# Altium schematic symbol library CH sch.SchLib: 197 symbols (part 2 of 4)
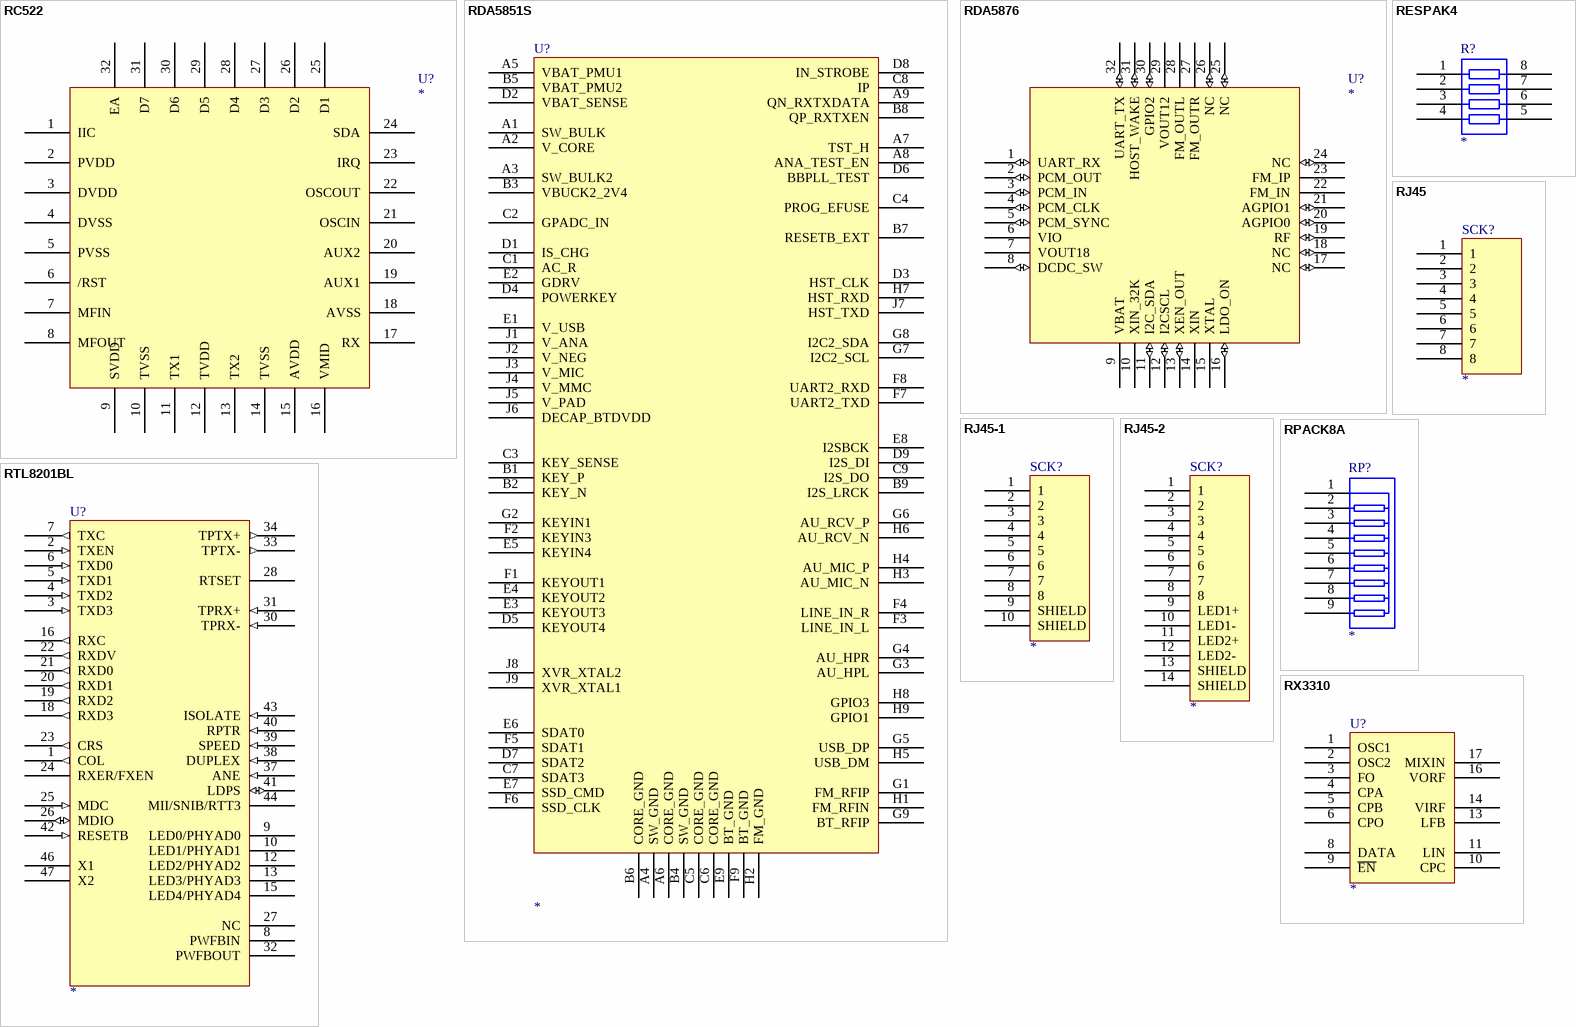
[diagram p28: symbols RC522 to RX3310]

## RDA5851S
designator U?
footprint BGA81x9
pins: A1 SW_BULK, A2 V_CORE, A3 SW_BULK2, A4 SW_GND (power), A5 VBAT_PMU1, A6 CORE_GND (power), A7 TST_H, A8 ANA_TEST_EN, A9 QN_RXTXDATA, B1 KEY_P, B2 KEY_N, B3 VBUCK2_2V4, B4 SW_GND (power), B5 VBAT_PMU2, B6 CORE_GND (power), B7 RESETB_EXT, B8 QP_RXTXEN, B9 I2S_LRCK, C1 AC_R, C2 GPADC_IN, C3 KEY_SENSE, C4 PROG_EFUSE, C5 CORE_GND (power), C6 CORE_GND (power), C7 SDAT3, C8 IP, C9 I2S_DO, D1 IS_CHG (hiz), D2 VBAT_SENSE, D3 HST_CLK, D4 POWERKEY, D5 KEYOUT4, D6 BBPLL_TEST, D7 SDAT2, D8 IN_STROBE, D9 I2S_DI, E1 V_USB, E2 GDRV, E3 KEYOUT3, E4 KEYOUT2, E5 KEYIN4, E6 SDAT0, E7 SSD_CMD, E8 I2SBCK, E9 BT_GND (power), F1 KEYOUT1, F2 KEYIN3, F3 LINE_IN_L, F4 LINE_IN_R, F5 SDAT1, F6 SSD_CLK, F7 UART2_TXD, F8 UART2_RXD, F9 BT_GND (power), G1 FM_RFIP, G2 KEYIN1, G3 AU_HPL, G4 AU_HPR, G5 USB_DP, G6 AU_RCV_P, G7 I2C2_SCL, G8 I2C2_SDA, G9 BT_RFIP, H1 FM_RFIN, H2 FM_GND (power), H3 AU_MIC_N, H4 AU_MIC_P, H5 USB_DM, H6 AU_RCV_N, H7 HST_RXD, H8 GPIO3, H9 GPIO1, J1 V_ANA, J2 V_NEG, J3 V_MIC, J4 V_MMC, J5 V_PAD, J6 DECAP_BTDVDD, J7 HST_TXD, J8 XVR_XTAL2, J9 XVR_XTAL1
2 alternate drawings of the same symbol

## RDA5876
designator U?
HCI interface Bluetooth2.1 transmiter & FM radio receiver
footprint QFN-32S
pins: 1 UART_RX (io), 2 PCM_OUT (io), 3 PCM_IN (io), 4 PCM_CLK (io), 5 PCM_SYNC (io), 6 VIO (power), 7 VOUT18 (power), 8 DCDC_SW (io), 9 VBAT (power), 10 XIN_32K, 11 I2C_SDA (io), 12 I2CSCL (io), 13 XEN_OUT (io), 14 XIN, 15 XTAL, 16 LDO_ON (io), 17 NC (io), 18 NC (io), 19 RF (io), 20 AGPIO0 (io), 21 AGPIO1 (io), 22 FM_IN, 23 FM_IP, 24 NC (io), 25 NC (io), 26 NC (io), 27 FM_OUTR, 28 FM_OUTL, 29 VOUT12 (power), 30 GPIO2 (io), 31 HOST_WAKE (io), 32 UART_TX (io), 33 GND (power) hidden to GND
2 alternate drawings of the same symbol

## RESPAK4
designator R?
footprint CNJ4A
pins: 1, 2, 3, 4, 5, 6, 7, 8
2 alternate drawings of the same symbol

## RJ45
designator SCK?
footprint RJ45
pins: 1, 2, 3, 4, 5, 6, 7, 8
2 alternate drawings of the same symbol

## RJ45-1
designator SCK?
footprint RJ45
pins: 1, 2, 3, 4, 5, 6, 7, 8, 9 SHIELD (power), 10 SHIELD
2 alternate drawings of the same symbol

## RJ45-2
designator SCK?
footprint RJ45-2
pins: 1, 2, 3, 4, 5, 6, 7, 8, 9 LED1+, 10 LED1-, 11 LED2+, 12 LED2-, 13 SHIELD (power), 14 SHIELD
2 alternate drawings of the same symbol

## RPACK8A
designator RP?
footprint SIP-9
pins: 1, 2, 3, 4, 5, 6, 7, 8, 9
2 alternate drawings of the same symbol

## RTL8201BL
designator U?
footprint LQFP48
pins: 1 COL (out), 2 TXEN (in), 3 TXD3 (in), 4 TXD2 (in), 5 TXD1 (in), 6 TXD0 (in), 7 TXC (out), 8 PWFBIN, 9 LED0/PHYAD0, 10 LED1/PHYAD1, 11 DGND (power) hidden to DGND, 12 LED2/PHYAD2, 13 LED3/PHYAD3, 14 DVDD33 (power) hidden to DVDD33, 15 LED4/PHYAD4, 16 RXC (out), 17 DGND (power) hidden to DGND, 18 RXD3 (out), 19 RXD2 (out), 20 RXD1 (out), 21 RXD0 (out), 22 RXDV (out), 23 CRS (out), 24 RXER/FXEN, 25 MDC (in), 26 MDIO (io), 27 NC, 28 RTSET, 29 AGND (power) hidden to AGND, 30 TPRX- (in), 31 TPRX+ (in), 32 PWFBOUT, 33 TPTX- (out), 34 TPTX+ (out), 35 AGND (power) hidden to AGND, 36 AVDD33 (power) hidden to AVDD33, 37 ANE (in), 38 DUPLEX (in), 39 SPEED (in), 40 RPTR (in), 41 LDPS (io), 42 RESETB (in), 43 ISOLATE (in), 44 MII/SNIB/RTT3, 45 DGND (power) hidden to DGND, 46 X1, 47 X2, 48 DVDD33 (power) hidden to DVDD33
2 alternate drawings of the same symbol

## RX3310
designator U?
footprint SOP-18W
pins: 1 OSC1, 2 OSC2, 3 FO, 4 CPA, 5 CPB, 6 CPO, 7 GND (power) hidden to GND, 8 DATA, 9 ~{EN}, 10 CPC, 11 LIN, 12 VCC (power) hidden to VCC, 13 LFB, 14 VIRF, 15 GND (power) hidden to GND, 16 VORF, 17 MIXIN, 18 VCC (power) hidden to VCC
2 alternate drawings of the same symbol

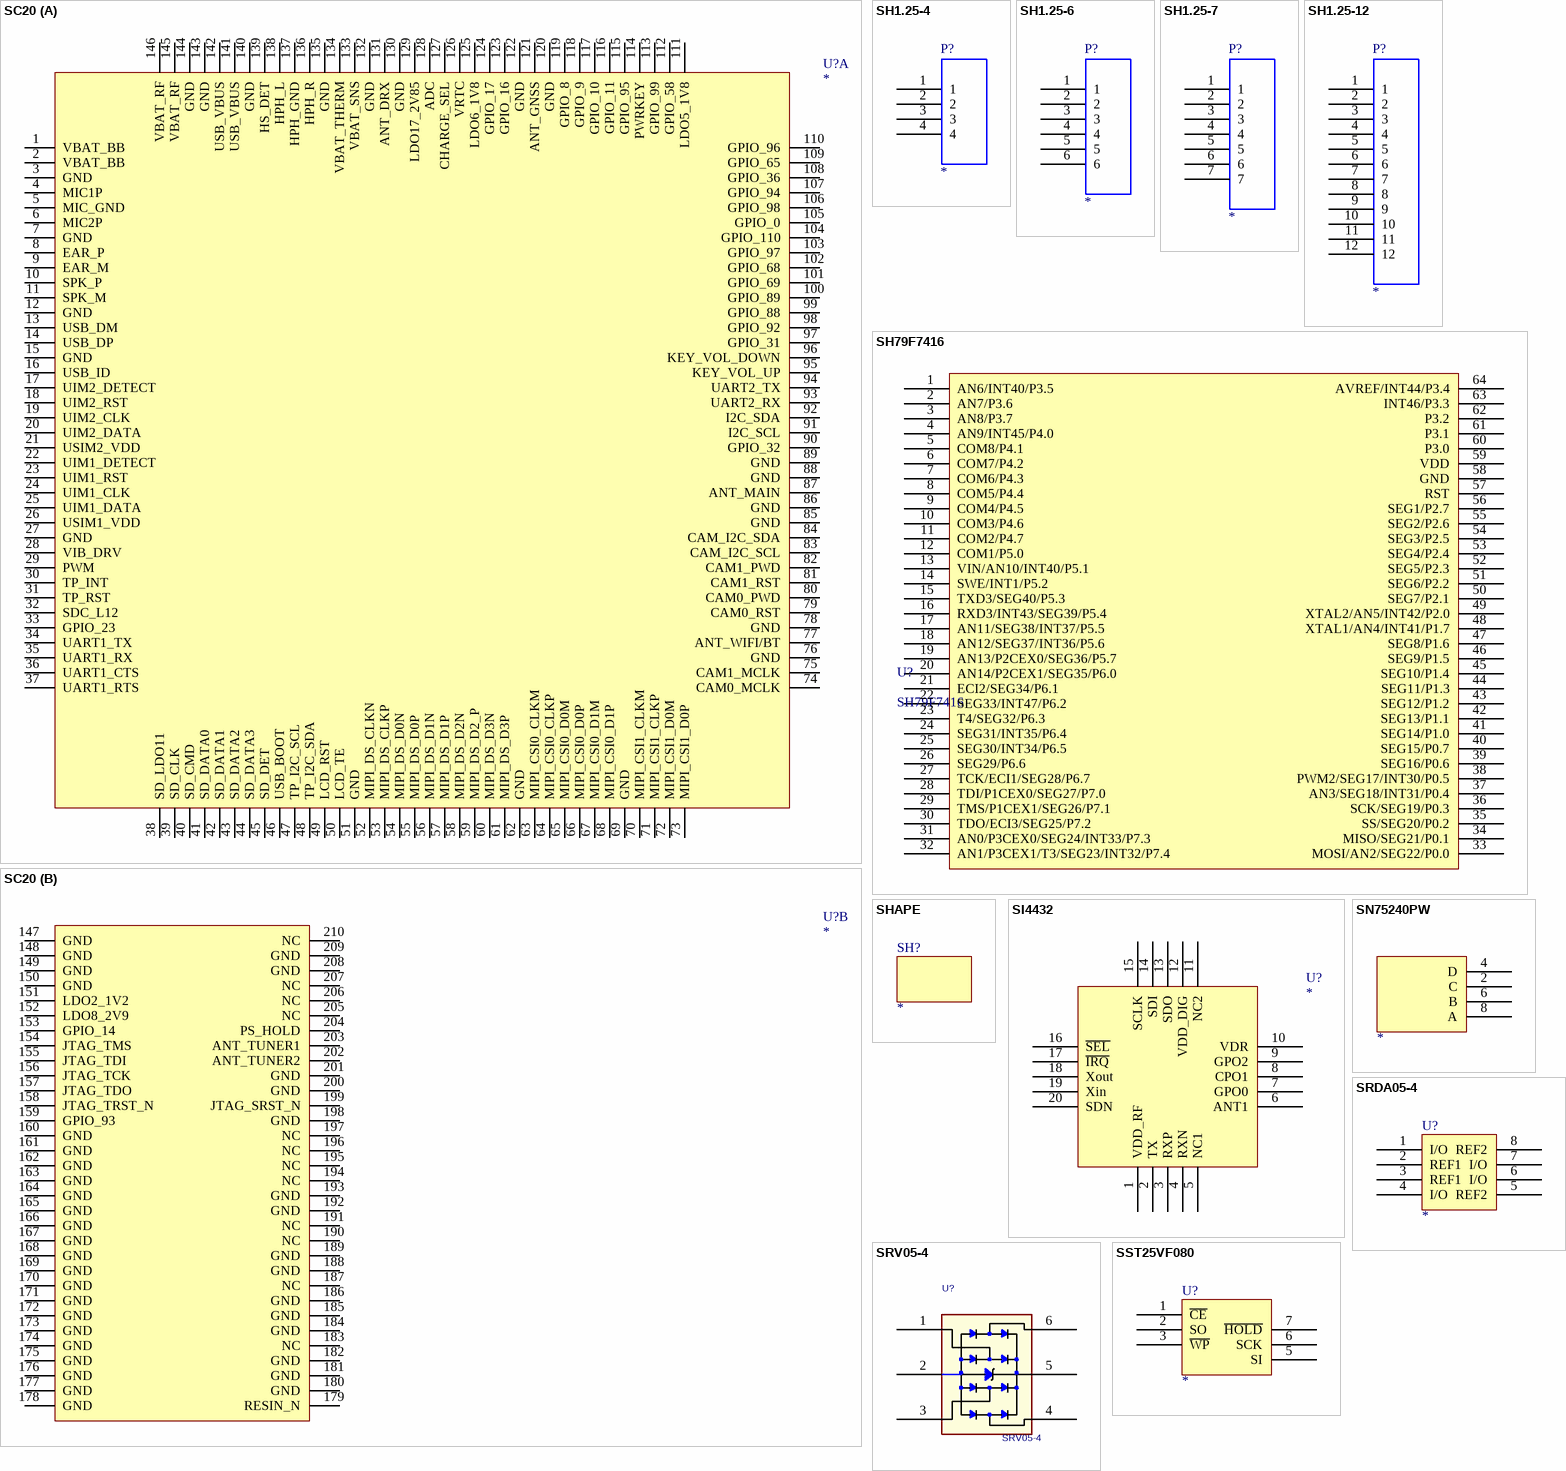
[diagram p8: symbols SC20 to SST25VF080]

## SC20
designator U?
Part Description: *; Value: *; Geometry.Height: *; PCB DECAL: *
footprint SC20
part A pins: 1 VBAT_BB, 2 VBAT_BB, 3 GND, 4 MIC1P, 5 MIC_GND, 6 MIC2P, 7 GND, 8 EAR_P, 9 EAR_M, 10 SPK_P, 11 SPK_M, 12 GND, 13 USB_DM, 14 USB_DP, 15 GND, 16 USB_ID, 17 UIM2_DETECT, 18 UIM2_RST, 19 UIM2_CLK, 20 UIM2_DATA, 21 USIM2_VDD, 22 UIM1_DETECT, 23 UIM1_RST, 24 UIM1_CLK, 25 UIM1_DATA, 26 USIM1_VDD, 27 GND, 28 VIB_DRV, 29 PWM, 30 TP_INT, 31 TP_RST, 32 SDC_L12, 33 GPIO_23, 34 UART1_TX, 35 UART1_RX, 36 UART1_CTS, 37 UART1_RTS, 38 SD_LDO11, 39 SD_CLK, 40 SD_CMD, 41 SD_DATA0, 42 SD_DATA1, 43 SD_DATA2, 44 SD_DATA3, 45 SD_DET, 46 USB_BOOT, 47 TP_I2C_SCL, 48 TP_I2C_SDA, 49 LCD_RST, 50 LCD_TE, 51 GND, 52 MIPI_DS_CLKN, 53 MIPI_DS_CLKP, 54 MIPI_DS_D0N, 55 MIPI_DS_D0P, 56 MIPI_DS_D1N, 57 MIPI_DS_D1P, 58 MIPI_DS_D2N, 59 MIPI_DS_D2_P, 60 MIPI_DS_D3N, 61 MIPI_DS_D3P, 62 GND, 63 MIPI_CSI0_CLKM, 64 MIPI_CSI0_CLKP, 65 MIPI_CSI0_D0M, 66 MIPI_CSI0_D0P, 67 MIPI_CSI0_D1M, 68 MIPI_CSI0_D1P, 69 GND, 70 MIPI_CSI1_CLKM, 71 MIPI_CSI1_CLKP, 72 MIPI_CSI1_D0M, 73 MIPI_CSI1_D0P, 74 CAM0_MCLK, 75 CAM1_MCLK, 76 GND, 77 ANT_WIFI/BT, 78 GND, 79 CAM0_RST, 80 CAM0_PWD, 81 CAM1_RST, 82 CAM1_PWD, 83 CAM_I2C_SCL, 84 CAM_I2C_SDA, 85 GND, 86 GND, 87 ANT_MAIN, 88 GND, 89 GND, 90 GPIO_32, 91 I2C_SCL, 92 I2C_SDA, 93 UART2_RX, 94 UART2_TX, 95 KEY_VOL_UP, 96 KEY_VOL_DOWN, 97 GPIO_31, 98 GPIO_92, 99 GPIO_88, 100 GPIO_89, 101 GPIO_69, 102 GPIO_68, 103 GPIO_97, 104 GPIO_110, 105 GPIO_0, 106 GPIO_98, 107 GPIO_94, 108 GPIO_36, 109 GPIO_65, 110 GPIO_96, 111 LDO5_1V8, 112 GPIO_58, 113 GPIO_99, 114 PWRKEY, 115 GPIO_95, 116 GPIO_11, 117 GPIO_10, 118 GPIO_9, 119 GPIO_8, 120 GND, 121 ANT_GNSS, 122 GND, 123 GPIO_16, 124 GPIO_17, 125 LDO6_1V8, 126 VRTC, 127 CHARGE_SEL, 128 ADC, 129 LDO17_2V85, 130 GND, 131 ANT_DRX, 132 GND, 133 VBAT_SNS, 134 VBAT_THERM, 135 GND, 136 HPH_R, 137 HPH_GND, 138 HPH_L, 139 HS_DET, 140 GND, 141 USB_VBUS, 142 USB_VBUS, 143 GND, 144 GND, 145 VBAT_RF, 146 VBAT_RF
part B pins: 147 GND, 148 GND, 149 GND, 150 GND, 151 LDO2_1V2, 152 LDO8_2V9, 153 GPIO_14, 154 JTAG_TMS, 155 JTAG_TDI, 156 JTAG_TCK, 157 JTAG_TDO, 158 JTAG_TRST_N, 159 GPIO_93, 160 GND, 161 GND, 162 GND, 163 GND, 164 GND, 165 GND, 166 GND, 167 GND, 168 GND, 169 GND, 170 GND, 171 GND, 172 GND, 173 GND, 174 GND, 175 GND, 176 GND, 177 GND, 178 GND, 179 RESIN_N, 180 GND, 181 GND, 182 GND, 183 NC, 184 GND, 185 GND, 186 GND, 187 NC, 188 GND, 189 GND, 190 NC, 191 NC, 192 GND, 193 GND, 194 NC, 195 NC, 196 NC, 197 NC, 198 GND, 199 JTAG_SRST_N, 200 GND, 201 GND, 202 ANT_TUNER2, 203 ANT_TUNER1, 204 PS_HOLD, 205 NC, 206 NC, 207 NC, 208 GND, 209 GND, 210 NC
2 alternate drawings of the same symbol

## SH1.25-4
designator P?
1.25 插座
footprint SH1.25-4L
footprint SH1.25-4I
pins: 1, 2, 3, 4, A (power) hidden to A, B (power) hidden to B
2 alternate drawings of the same symbol

## SH1.25-6
designator P?
1.25 插座
footprint SH1.25-6L
footprint SH1.25-6I
pins: 1, 2, 3, 4, 5, 6, A (power) hidden to A, B (power) hidden to B
2 alternate drawings of the same symbol

## SH1.25-7
designator P?
1.25 插座
footprint SH1.25-7L
footprint SH1.25-7I
pins: 1, 2, 3, 4, 5, 6, 7, A (power) hidden to A, B (power) hidden to B
2 alternate drawings of the same symbol

## SH1.25-12
designator P?
1.25 插座
footprint SH1.25-12L
footprint SH1.25-12I
pins: 1, 2, 3, 4, 5, 6, 7, 8, 9, 10, 11, 12, A (power) hidden to A, B (power) hidden to B
2 alternate drawings of the same symbol

## SH79F7416
designator U?
footprint LQFP64L
pins: 1 AN6/INT40/P3.5, 2 AN7/P3.6, 3 AN8/P3.7, 4 AN9/INT45/P4.0, 5 COM8/P4.1, 6 COM7/P4.2, 7 COM6/P4.3, 8 COM5/P4.4, 9 COM4/P4.5, 10 COM3/P4.6, 11 COM2/P4.7, 12 COM1/P5.0, 13 VIN/AN10/INT40/P5.1, 14 SWE/INT1/P5.2, 15 TXD3/SEG40/P5.3, 16 RXD3/INT43/SEG39/P5.4, 17 AN11/SEG38/INT37/P5.5, 18 AN12/SEG37/INT36/P5.6, 19 AN13/P2CEX0/SEG36/P5.7, 20 AN14/P2CEX1/SEG35/P6.0, 21 ECI2/SEG34/P6.1, 22 SEG33/INT47/P6.2, 23 T4/SEG32/P6.3, 24 SEG31/INT35/P6.4, 25 SEG30/INT34/P6.5, 26 SEG29/P6.6, 27 TCK/ECI1/SEG28/P6.7, 28 TDI/P1CEX0/SEG27/P7.0, 29 TMS/P1CEX1/SEG26/P7.1, 30 TDO/ECI3/SEG25/P7.2, 31 AN0/P3CEX0/SEG24/INT33/P7.3, 32 AN1/P3CEX1/T3/SEG23/INT32/P7.4, 33 MOSI/AN2/SEG22/P0.0, 34 MISO/SEG21/P0.1, 35 SS/SEG20/P0.2, 36 SCK/SEG19/P0.3, 37 AN3/SEG18/INT31/P0.4, 38 PWM2/SEG17/INT30/P0.5, 39 SEG16/P0.6, 40 SEG15/P0.7, 41 SEG14/P1.0, 42 SEG13/P1.1, 43 SEG12/P1.2, 44 SEG11/P1.3, 45 SEG10/P1.4, 46 SEG9/P1.5, 47 SEG8/P1.6, 48 XTAL1/AN4/INT41/P1.7, 49 XTAL2/AN5/INT42/P2.0, 50 SEG7/P2.1, 51 SEG6/P2.2, 52 SEG5/P2.3, 53 SEG4/P2.4, 54 SEG3/P2.5, 55 SEG2/P2.6, 56 SEG1/P2.7, 57 RST, 58 GND, 59 VDD, 60 P3.0, 61 P3.1, 62 P3.2, 63 INT46/P3.3, 64 AVREF/INT44/P3.4

## SHAPE
designator SH?
footprint PUMP1
footprint PM2.5
footprint MARK
2 alternate drawings of the same symbol

## SI4432
designator U?
footprint QFN-20
pins: 1 VDD_RF, 2 TX, 3 RXP, 4 RXN, 5 NC1, 6 ANT1, 7 GPO0, 8 CPO1, 9 GPO2, 10 VDR, 11 NC2, 12 VDD_DIG, 13 SDO, 14 SDI, 15 SCLK, 16 ~{SEL}, 17 ~{IRQ}, 18 Xout, 19 Xin, 20 SDN, 21 GND (power) hidden to GND
2 alternate drawings of the same symbol

## SN75240PW
designator ?
pins: 1 GND (power) hidden to GND, 2 C, 3 GND (power) hidden to GND, 4 D, 5 GND (power) hidden to GND, 6 B, 7 GND (power) hidden to GND, 8 A
2 alternate drawings of the same symbol

## SRDA05-4
designator U?
footprint SOP8
pins: 1 I/O, 2 REF1, 3 REF1, 4 I/O, 5 REF2, 6 I/O, 7 I/O, 8 REF2
2 alternate drawings of the same symbol

## SRV05-4
designator U?
DIODE TVS ARRAY 12A 5V 300W SOT23_S6; CLASS: IC; CAD_APPROVED: Yes; MFG_PN01: SRV05-4.TCT; MFG_NAME01: SEMTECH CORP; AGILE_PN: 480-75205; HEIGHT: 1.45mm; ROHS: Yes
footprint SOT23_S6
footprint SRV5-4
pins: 1 I/O1, 2 GND, 3 I/O3, 4 I/O4, 5 VCC, 6 I/O6

## SST25VF080
designator U?
footprint SOP-8W
pins: 1 ~{CE}, 2 SO, 3 ~{WP}, 4 GND (power) hidden to GND, 5 SI, 6 SCK, 7 ~{HOLD}, 8 VCC (power) hidden to VCC
2 alternate drawings of the same symbol

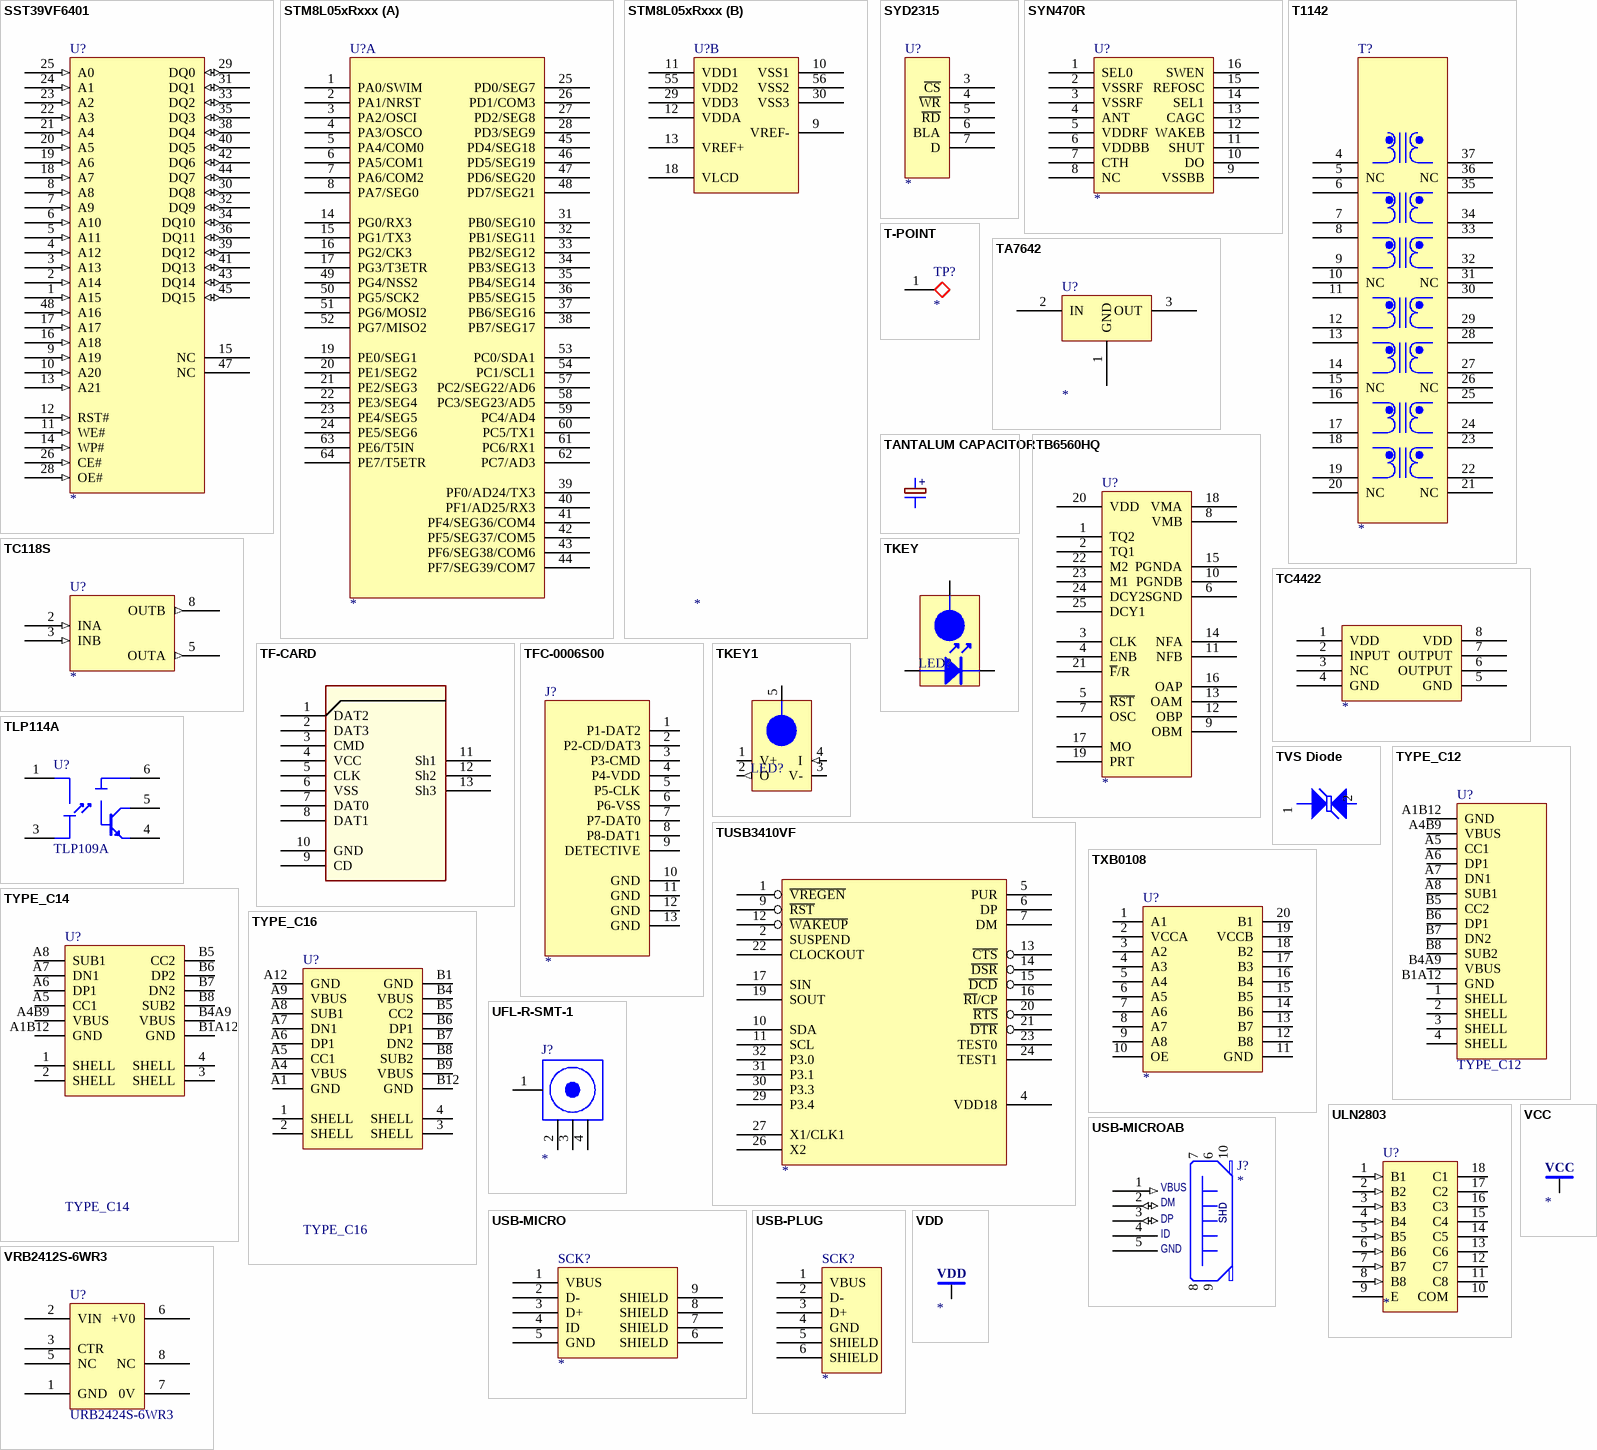
[diagram p9: symbols SST39VF6401 to VRB2412S-6WR3]

## SST39VF6401
designator U?
footprint TSOP48
pins: 1 A15 (in), 2 A14 (in), 3 A13 (in), 4 A12 (in), 5 A11 (in), 6 A10 (in), 7 A9 (in), 8 A8 (in), 9 A19 (in), 10 A20 (in), 11 WE# (in), 12 RST# (in), 13 A21 (in), 14 WP# (in), 15 NC, 16 A18 (in), 17 A17 (in), 18 A7 (in), 19 A6 (in), 20 A5 (in), 21 A4 (in), 22 A3 (in), 23 A2 (in), 24 A1 (in), 25 A0 (in), 26 CE# (in), 27 VSS (power) hidden to VSS, 28 OE# (in), 29 DQ0 (io), 30 DQ8 (io), 31 DQ1 (io), 32 DQ9 (io), 33 DQ2 (io), 34 DQ10 (io), 35 DQ3 (io), 36 DQ11 (io), 37 VDD (power) hidden to VDD, 38 DQ4 (io), 39 DQ12 (io), 40 DQ5 (io), 41 DQ13 (io), 42 DQ6 (io), 43 DQ14 (io), 44 DQ7 (io), 45 DQ15 (io), 46 VSS (power) hidden to VSS, 47 NC, 48 A16 (in)
2 alternate drawings of the same symbol

## STM8L05xRxxx
designator U?
STM8L052R8T6; DES: *; SN: *
footprint LQFP-64
part A pins: 1 PA0/SWIM, 2 PA1/NRST, 3 PA2/OSCI, 4 PA3/OSCO, 5 PA4/COM0, 6 PA5/COM1, 7 PA6/COM2, 8 PA7/SEG0, 14 PG0/RX3, 15 PG1/TX3, 16 PG2/CK3, 17 PG3/T3ETR, 19 PE0/SEG1, 20 PE1/SEG2, 21 PE2/SEG3, 22 PE3/SEG4, 23 PE4/SEG5, 24 PE5/SEG6, 25 PD0/SEG7, 26 PD1/COM3, 27 PD2/SEG8, 28 PD3/SEG9, 31 PB0/SEG10, 32 PB1/SEG11, 33 PB2/SEG12, 34 PB3/SEG13, 35 PB4/SEG14, 36 PB5/SEG15, 37 PB6/SEG16, 38 PB7/SEG17, 39 PF0/AD24/TX3, 40 PF1/AD25/RX3, 41 PF4/SEG36/COM4, 42 PF5/SEG37/COM5, 43 PF6/SEG38/COM6, 44 PF7/SEG39/COM7, 45 PD4/SEG18, 46 PD5/SEG19, 47 PD6/SEG20, 48 PD7/SEG21, 49 PG4/NSS2, 50 PG5/SCK2, 51 PG6/MOSI2, 52 PG7/MISO2, 53 PC0/SDA1, 54 PC1/SCL1, 57 PC2/SEG22/AD6, 58 PC3/SEG23/AD5, 59 PC4/AD4, 60 PC5/TX1, 61 PC6/RX1, 62 PC7/AD3, 63 PE6/T5IN, 64 PE7/T5ETR
part B pins: 9 VREF- (power), 10 VSS1 (power), 11 VDD1 (power), 12 VDDA (power), 13 VREF+ (power), 18 VLCD (power), 29 VDD3 (power), 30 VSS3 (power), 55 VDD2 (power), 56 VSS2 (power)
2 alternate drawings of the same symbol

## SYD2315
designator U?
footprint SIP-7
pins: 1 GND (power) hidden to GND, 2 VCC (power) hidden to VCC, 3 ~{CS}, 4 ~{WR}, 5 ~{RD}, 6 BLA, 7 D
2 alternate drawings of the same symbol

## SYN470R
designator U?
footprint SOP-16
pins: 1 SEL0, 2 VSSRF, 3 VSSRF, 4 ANT, 5 VDDRF, 6 VDDBB, 7 CTH, 8 NC, 9 VSSBB, 10 DO, 11 SHUT, 12 WAKEB, 13 CAGC, 14 SEL1, 15 REFOSC, 16 SWEN
2 alternate drawings of the same symbol

## T1142
designator T?
footprint PULSE40
pins: 4, 5 NC, 6, 7, 8, 9, 10 NC, 11, 12, 13, 14, 15 NC, 16, 17, 18, 19, 20 NC, 21 NC, 22, 23, 24, 25, 26 NC, 27, 28, 29, 30, 31 NC, 32, 33, 34, 35, 36 NC, 37
2 alternate drawings of the same symbol

## T-POINT
designator TP?
footprint TP30
footprint TP40
pins: 1
2 alternate drawings of the same symbol

## TA7642
designator U?
AM radio receiver
footprint TO-92
pins: 1 GND, 2 IN, 3 OUT
2 alternate drawings of the same symbol

## TANTALUM CAPACITOR
designator CT?
pins: 1, 2
text: +

## TB6560HQ
designator U?
footprint HZIP25
pins: 1 TQ2, 2 TQ1, 3 CLK, 4 ENB, 5 ~{RST}, 6 SGND, 7 OSC, 8 VMB, 9 OBM, 10 PGNDB, 11 NFB, 12 OBP, 13 OAM, 14 NFA, 15 PGNDA, 16 OAP (power), 17 MO, 18 VMA, 19 PRT, 20 VDD, 21 ~{F}/R, 22 M2, 23 M1, 24 DCY2, 25 DCY1
2 alternate drawings of the same symbol

## TC118S
designator U?
footprint SOP-8
pins: 1 NC hidden to NC, 2 INA (in), 3 INB (in), 4 VCC (power) hidden to VCC, 5 OUTA (out), 6 GND (power) hidden to GND, 7 GND (power) hidden to GND, 8 OUTB (out)
2 alternate drawings of the same symbol

## TC4422
designator ?
9.0A high speed MOSFET driver
footprint SOP-8
pins: 1 VDD, 2 INPUT, 3 NC, 4 GND, 5 GND, 6 OUTPUT, 7 OUTPUT, 8 VDD
2 alternate drawings of the same symbol

## TF-CARD
designator J?
pins: 1 DAT2, 2 DAT3, 3 CMD, 4 VCC, 5 CLK, 6 VSS, 7 DAT0, 8 DAT1, 9 CD, 10 GND, 11 Sh1, 12 Sh2, 13 Sh3

## TFC-0006S00
designator J?
Part Description: *; Value: *; PCB DECAL: *
footprint TFC-0006S00
pins: 1 P1-DAT2, 2 P2-CD/DAT3, 3 P3-CMD, 4 P4-VDD, 5 P5-CLK, 6 P6-VSS, 7 P7-DAT0, 8 P8-DAT1, 9 DETECTIVE, 10 GND, 11 GND, 12 GND, 13 GND
2 alternate drawings of the same symbol

## TKEY
designator LED?  (value not drawn)
footprint TKEY01
pins: 1, 2, 3

## TKEY1
designator LED?  (value not drawn)
footprint TKEY02
pins: 1 V+, 2 O (out), 3 V-, 4 I (in), 5 T

## TLP114A
designator U?, comment TLP109A
OPT: 隔离; SN: CL001010167; DES: TLP112A; 隔离: YES; 非隔离: NO
footprint SO6-5
pins: 1, 3, 4, 5, 6

## TUSB3410VF
designator ?
pins: 1 ~{VREGEN}, 2 SUSPEND, 3 VCC (power) hidden to VCC, 4 VDD18, 5 PUR, 6 DP, 7 DM, 8 GND (power) hidden to GND, 9 ~{RST}, 10 SDA, 11 SCL, 12 ~{WAKEUP}, 13 ~{CTS}, 14 ~{DSR}, 15 ~{DCD}, 16 ~{RI}/CP, 17 SIN, 18 GND hidden to GND, 19 SOUT, 20 ~{RTS}, 21 ~{DTR}, 22 CLOCKOUT, 23 TEST0, 24 TEST1, 25 VCC (power) hidden to VCC, 26 X2, 27 X1/CLK1, 28 GND (power) hidden to GND, 29 P3.4, 30 P3.3, 31 P3.1, 32 P3.0
2 alternate drawings of the same symbol

## TVS Diode
designator D?
footprint L16214
pins: 1, 2

## TXB0108
designator U?
PCB DECAL: *; PART DECRIPTION: *; VALUE: *
footprint TXB0108-PW
pins: 1 A1, 2 VCCA, 3 A2, 4 A3, 5 A4, 6 A5, 7 A6, 8 A7, 9 A8, 10 OE, 11 GND, 12 B8, 13 B7, 14 B6, 15 B5, 16 B4, 17 B3, 18 B2, 19 VCCB, 20 B1
2 alternate drawings of the same symbol

## TYPE_C12
designator U?
SN: CL001070491008
footprint TYPEC-SMD1
pins: 1 SHELL, 2 SHELL, 3 SHELL, 4 SHELL, A1B12 GND, A4B9 VBUS, A5 CC1, A6 DP1, A7 DN1, A8 SUB1, B1A12 GND, B4A9 VBUS, B5 CC2, B6 DP1, B7 DN2, B8 SUB2

## TYPE_C14
designator U?
SN: TMP
footprint TYPEC-1
pins: 1 SHELL, 2 SHELL, 3 SHELL, 4 SHELL, A1B12 GND, A4B9 VBUS, A5 CC1, A6 DP1, A7 DN1, A8 SUB1, B1A12 GND, B4A9 VBUS, B5 CC2, B6 DP2, B7 DN2, B8 SUB2

## TYPE_C16
designator U?
SN: CL001070491008
footprint TYPEC-SMD2
pins: 1 SHELL, 2 SHELL, 3 SHELL, 4 SHELL, A1 GND, A4 VBUS, A5 CC1, A6 DP1, A7 DN1, A8 SUB1, A9 VBUS, A12 GND, B1 GND, B4 VBUS, B5 CC2, B6 DP1, B7 DN2, B8 SUB2, B9 VBUS, B12 GND

## UFL-R-SMT-1
designator J?
Part Description: *; PCB DECAL: *; VALUE: *
footprint UFL-R-SMT-1
pins: 1, 2, 3, 4
2 alternate drawings of the same symbol

## ULN2803
designator U?
footprint SOP-18W
pins: 1 B1 (in), 2 B2 (in), 3 B3 (in), 4 B4 (in), 5 B5 (in), 6 B6 (in), 7 B7 (in), 8 B8 (in), 9 E (power), 10 COM (power), 11 C8 (oc), 12 C7 (oc), 13 C6 (oc), 14 C5 (oc), 15 C4 (oc), 16 C3 (oc), 17 C2 (oc), 18 C1 (oc)
2 alternate drawings of the same symbol

## USB-MICRO
designator SCK?
footprint MicroUSB
pins: 1 VBUS, 2 D-, 3 D+, 4 ID (power), 5 GND (power), 6 SHIELD, 7 SHIELD, 8 SHIELD, 9 SHIELD
2 alternate drawings of the same symbol

## USB-MICROAB
designator J?
pins: 1 VBUS (in), 2 DM (io), 3 DP (io), 4 ID, 5 GND, 6 SH2, 7 SH3, 8 SH4, 9 SH1, 10 SH5
2 alternate drawings of the same symbol
text: SHD

## USB-PLUG
designator SCK?
footprint USBA
footprint USB4B
pins: 1 VBUS, 2 D-, 3 D+, 4 GND (power), 5 SHIELD (power), 6 SHIELD
2 alternate drawings of the same symbol

## VCC
designator ?
pins: 1 (power)
2 alternate drawings of the same symbol

## VDD
designator ?
pins: 1 (power)
2 alternate drawings of the same symbol

## VRB2412S-6WR3
designator U?, comment URB2424S-6WR3
DIS: VRB2412S-6WR3
footprint VRB2412S-6WR3
pins: 1 GND, 2 VIN, 3 CTR, 5 NC, 6 +V0, 7 0V, 8 NC

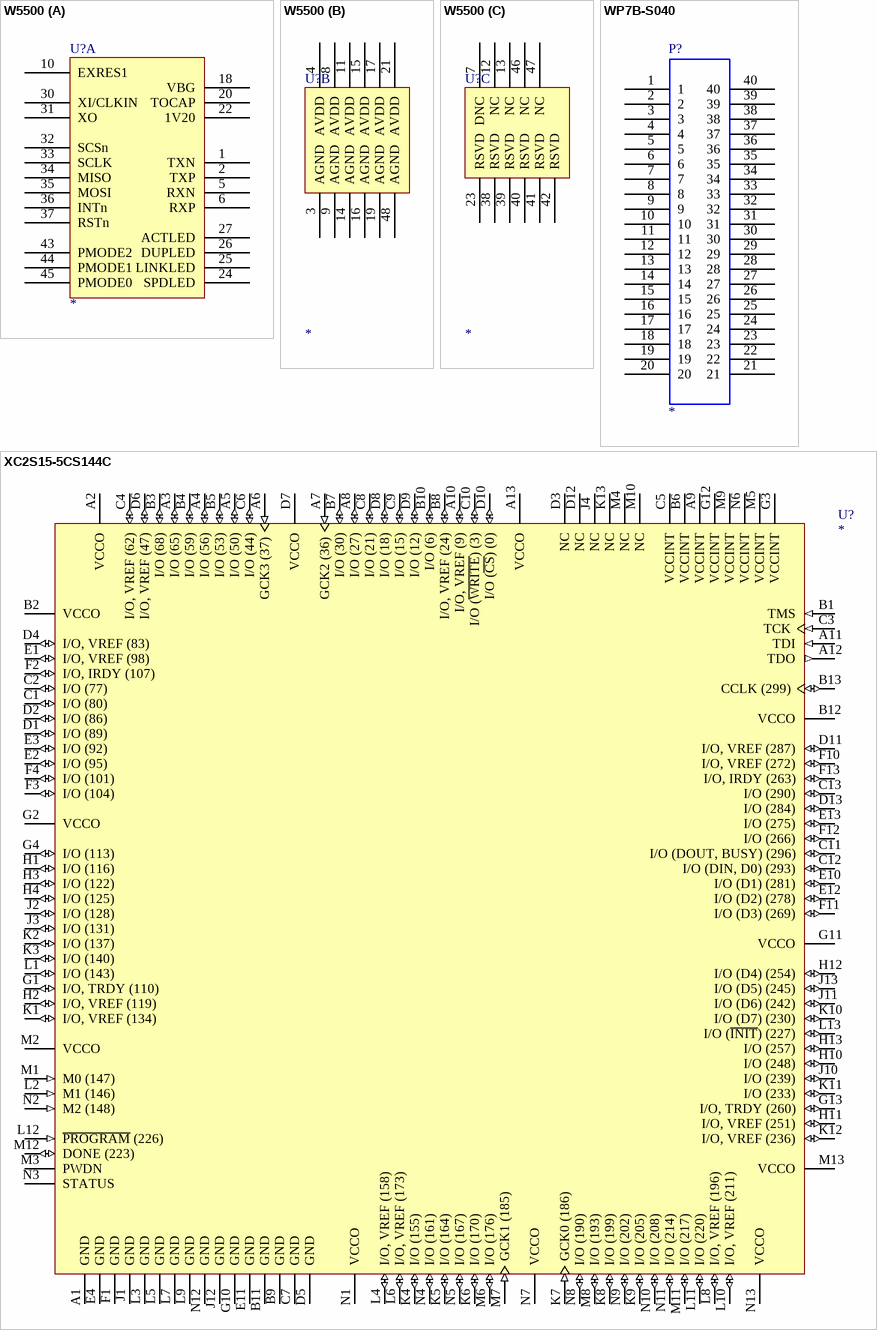
[diagram p10: symbols W5500 to XC2S15-5CS144C]

## W5500
designator U?
10/100BaseT Ethernet transceiver
footprint LQFP-48
part A pins: 1 TXN, 2 TXP, 5 RXN, 6 RXP, 10 EXRES1, 18 VBG, 20 TOCAP, 22 1V20, 24 SPDLED, 25 LINKLED, 26 DUPLED, 27 ACTLED, 28 VCC (power) hidden to VCC, 29 GND (power) hidden to GND, 30 XI/CLKIN, 31 XO, 32 SCSn, 33 SCLK, 34 MISO, 35 MOSI, 36 INTn, 37 RSTn, 43 PMODE2, 44 PMODE1, 45 PMODE0
part B pins: 3 AGND, 4 AVDD, 8 AVDD, 9 AGND, 11 AVDD, 14 AGND, 15 AVDD, 16 AGND, 17 AVDD, 19 AGND, 21 AVDD, 48 AGND
part C pins: 7 DNC, 12 NC, 13 NC, 23 RSVD, 38 RSVD, 39 RSVD, 40 RSVD, 41 RSVD, 42 RSVD, 46 NC, 47 NC
2 alternate drawings of the same symbol

## WP7B-S040
designator P?
footprint WP7B-S040
pins: 1, 2, 3, 4, 5, 6, 7, 8, 9, 10, 11, 12, 13, 14, 15, 16, 17, 18, 19, 20, 21, 22, 23, 24, 25, 26, 27, 28, 29, 30, 31, 32, 33, 34, 35, 36, 37, 38, 39, 40, A (power) hidden to A, B (power) hidden to B, C (power) hidden to C, D (power) hidden to D
2 alternate drawings of the same symbol

## XC2S15-5CS144C
designator U?
Spartan-II 2.5V Field Programmable Gate Array; Text Field1: Published 13-Jul-2001
footprint BGA12X12-B144
pins: A1 GND (power), A2 VCCO (power), A3 I/O (65) (io), A4 I/O (56) (io), A5 I/O (50) (io), A6 GCK3 (37) (in), A7 GCK2 (36) (in), A8 I/O (27) (io), A9 VCCINT (power), A10 I/O, VREF (9) (io), A11 TDI (in), A12 TDO (out), A13 VCCO (power), B1 TMS (in), B2 VCCO (power), B3 I/O (68) (io), B4 I/O (59) (io), B5 I/O (53) (io), B6 VCCINT (power), B7 I/O (30) (io), B8 I/O, VREF (24) (io), B9 GND (power), B10 I/O (6) (io), B11 GND (power), B12 VCCO (power), B13 CCLK (299) (io), C1 I/O (80) (io), C2 I/O (77) (io), C3 TCK (in), C4 I/O, VREF (62) (io), C5 VCCINT (power), C6 I/O (44) (io), C7 GND (power), C8 I/O (21) (io), C9 I/O (15) (io), C10 I/O (~{WRITE}) (3) (io), C11 I/O (DOUT, BUSY) (296) (io), C12 I/O (DIN, D0) (293) (io), C13 I/O (290) (io), D1 I/O (89) (io), D2 I/O (86) (io), D3 NC, D4 I/O, VREF (83) (io), D5 GND (power), D6 I/O, VREF (47) (io), D7 VCCO (power), D8 I/O (18) (io), D9 I/O (12) (io), D10 I/O (~{CS}) (0) (io), D11 I/O, VREF (287) (io), D12 NC, D13 I/O (284) (io), E1 I/O, VREF (98) (io), E2 I/O (95) (io), E3 I/O (92) (io), E4 GND (power), E10 I/O (D1) (281) (io), E11 GND (power), E12 I/O (D2) (278) (io), E13 I/O (275) (io), F1 GND (power), F2 I/O, IRDY (107) (io), F3 I/O (104) (io), F4 I/O (101) (io), F10 I/O, VREF (272) (io), F11 I/O (D3) (269) (io), F12 I/O (266) (io), F13 I/O, IRDY (263) (io), G1 I/O, TRDY (110) (io), G2 VCCO (power), G3 VCCINT (power), G4 I/O (113) (io), G10 GND (power), G11 VCCO (power), G12 VCCINT (power), G13 I/O, TRDY (260) (io), H1 I/O (116) (io), H2 I/O, VREF (119) (io), H3 I/O (122) (io), H4 I/O (125) (io), H10 I/O (248) (io), H11 I/O, VREF (251) (io), H12 I/O (D4) (254) (io), H13 I/O (257) (io), J1 GND (power), J2 I/O (128) (io), J3 I/O (131) (io), J4 NC, J10 I/O (239) (io), J11 I/O (D6) (242) (io), J12 GND (power), J13 I/O (D5) (245) (io), K1 I/O, VREF (134) (io), K2 I/O (137) (io), K3 I/O (140) (io), K4 I/O (155) (io), K5 I/O (164) (io), K6 I/O (170) (io), K7 GCK0 (186) (in), K8 I/O (199) (io), K9 I/O (205) (io), K10 I/O (D7) (230) (io), K11 I/O (233) (io), K12 I/O, VREF (236) (io), K13 NC, L1 I/O (143) (io), L2 M1 (146) (in), L3 GND (power), L4 I/O, VREF (158) (io), L5 GND (power), L6 I/O, VREF (173) (io), L7 GND (power), L8 I/O, VREF (196) (io), L9 GND (power), L10 I/O, VREF (211) (io), L11 I/O (220) (io), L12 ~{PROGRAM} (226) (in), L13 I/O (~{INIT}) (227) (io), M1 M0 (147) (in), M2 VCCO (power), M3 PWDN, M4 NC, M5 VCCINT (power), M6 I/O (176) (io), M7 GCK1 (185) (in), M8 I/O (193) (io), M9 VCCINT (power), M10 NC, M11 I/O (217) (io), M12 DONE (223) (io), M13 VCCO (power), N1 VCCO (power), N2 M2 (148) (in), N3 STATUS, N4 I/O (161) (io), N5 I/O (167) (io), N6 VCCINT (power), N7 VCCO (power), N8 I/O (190) (io), N9 I/O (202) (io), N10 I/O (208) (io), N11 I/O (214) (io), N12 GND (power), N13 VCCO (power)
2 alternate drawings of the same symbol

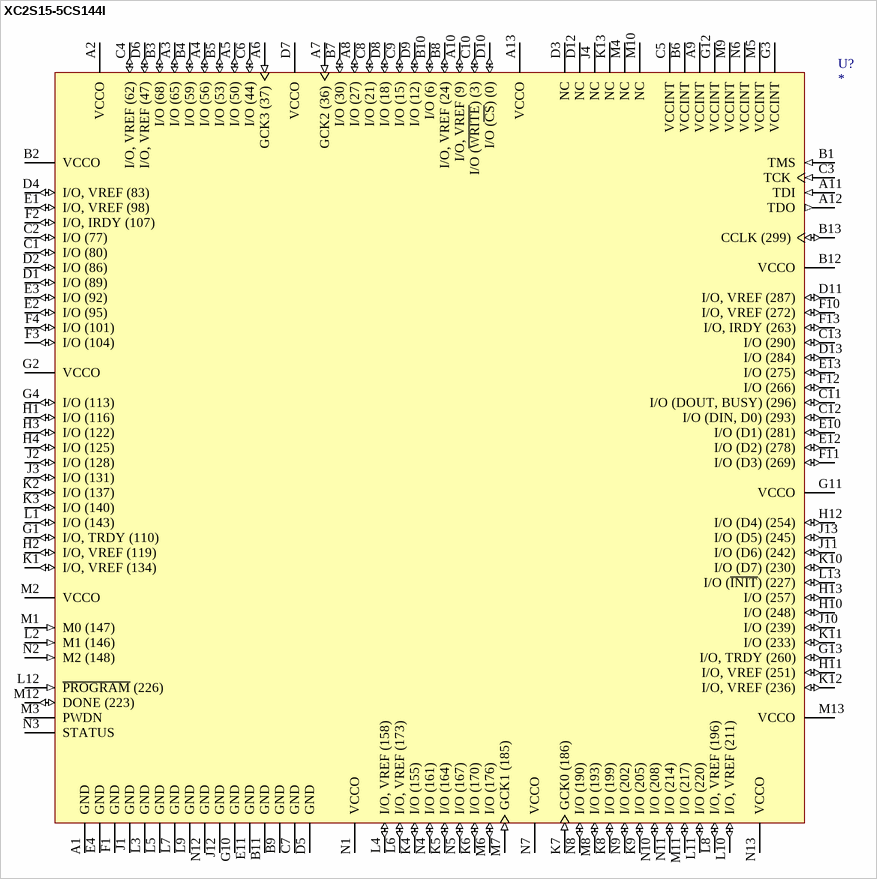
[diagram p11: symbol XC2S15-5CS144I]

## XC2S15-5CS144I
designator U?
Spartan-II 2.5V Field Programmable Gate Array; Text Field1: Published 13-Jul-2001
footprint BGA12X12-B144
pins: A1 GND (power), A2 VCCO (power), A3 I/O (65) (io), A4 I/O (56) (io), A5 I/O (50) (io), A6 GCK3 (37) (in), A7 GCK2 (36) (in), A8 I/O (27) (io), A9 VCCINT (power), A10 I/O, VREF (9) (io), A11 TDI (in), A12 TDO (out), A13 VCCO (power), B1 TMS (in), B2 VCCO (power), B3 I/O (68) (io), B4 I/O (59) (io), B5 I/O (53) (io), B6 VCCINT (power), B7 I/O (30) (io), B8 I/O, VREF (24) (io), B9 GND (power), B10 I/O (6) (io), B11 GND (power), B12 VCCO (power), B13 CCLK (299) (io), C1 I/O (80) (io), C2 I/O (77) (io), C3 TCK (in), C4 I/O, VREF (62) (io), C5 VCCINT (power), C6 I/O (44) (io), C7 GND (power), C8 I/O (21) (io), C9 I/O (15) (io), C10 I/O (~{WRITE}) (3) (io), C11 I/O (DOUT, BUSY) (296) (io), C12 I/O (DIN, D0) (293) (io), C13 I/O (290) (io), D1 I/O (89) (io), D2 I/O (86) (io), D3 NC, D4 I/O, VREF (83) (io), D5 GND (power), D6 I/O, VREF (47) (io), D7 VCCO (power), D8 I/O (18) (io), D9 I/O (12) (io), D10 I/O (~{CS}) (0) (io), D11 I/O, VREF (287) (io), D12 NC, D13 I/O (284) (io), E1 I/O, VREF (98) (io), E2 I/O (95) (io), E3 I/O (92) (io), E4 GND (power), E10 I/O (D1) (281) (io), E11 GND (power), E12 I/O (D2) (278) (io), E13 I/O (275) (io), F1 GND (power), F2 I/O, IRDY (107) (io), F3 I/O (104) (io), F4 I/O (101) (io), F10 I/O, VREF (272) (io), F11 I/O (D3) (269) (io), F12 I/O (266) (io), F13 I/O, IRDY (263) (io), G1 I/O, TRDY (110) (io), G2 VCCO (power), G3 VCCINT (power), G4 I/O (113) (io), G10 GND (power), G11 VCCO (power), G12 VCCINT (power), G13 I/O, TRDY (260) (io), H1 I/O (116) (io), H2 I/O, VREF (119) (io), H3 I/O (122) (io), H4 I/O (125) (io), H10 I/O (248) (io), H11 I/O, VREF (251) (io), H12 I/O (D4) (254) (io), H13 I/O (257) (io), J1 GND (power), J2 I/O (128) (io), J3 I/O (131) (io), J4 NC, J10 I/O (239) (io), J11 I/O (D6) (242) (io), J12 GND (power), J13 I/O (D5) (245) (io), K1 I/O, VREF (134) (io), K2 I/O (137) (io), K3 I/O (140) (io), K4 I/O (155) (io), K5 I/O (164) (io), K6 I/O (170) (io), K7 GCK0 (186) (in), K8 I/O (199) (io), K9 I/O (205) (io), K10 I/O (D7) (230) (io), K11 I/O (233) (io), K12 I/O, VREF (236) (io), K13 NC, L1 I/O (143) (io), L2 M1 (146) (in), L3 GND (power), L4 I/O, VREF (158) (io), L5 GND (power), L6 I/O, VREF (173) (io), L7 GND (power), L8 I/O, VREF (196) (io), L9 GND (power), L10 I/O, VREF (211) (io), L11 I/O (220) (io), L12 ~{PROGRAM} (226) (in), L13 I/O (~{INIT}) (227) (io), M1 M0 (147) (in), M2 VCCO (power), M3 PWDN, M4 NC, M5 VCCINT (power), M6 I/O (176) (io), M7 GCK1 (185) (in), M8 I/O (193) (io), M9 VCCINT (power), M10 NC, M11 I/O (217) (io), M12 DONE (223) (io), M13 VCCO (power), N1 VCCO (power), N2 M2 (148) (in), N3 STATUS, N4 I/O (161) (io), N5 I/O (167) (io), N6 VCCINT (power), N7 VCCO (power), N8 I/O (190) (io), N9 I/O (202) (io), N10 I/O (208) (io), N11 I/O (214) (io), N12 GND (power), N13 VCCO (power)
2 alternate drawings of the same symbol

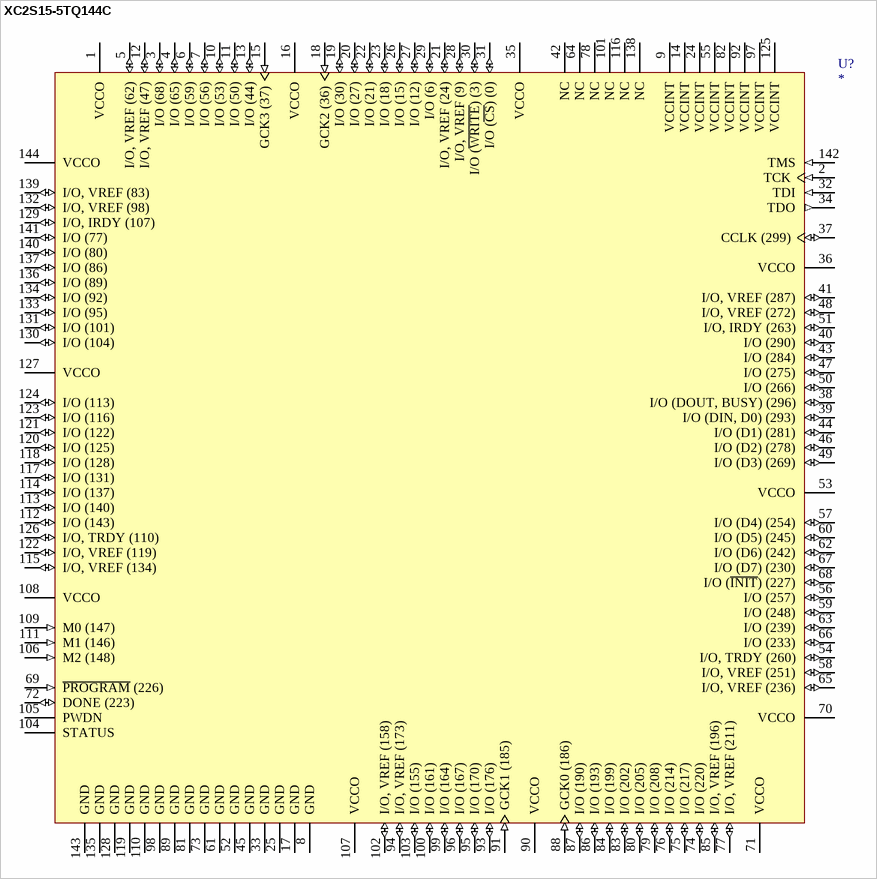
[diagram p12: symbol XC2S15-5TQ144C]

## XC2S15-5TQ144C
designator U?
Spartan-II 2.5V Field Programmable Gate Array; Text Field1: Published 13-Jul-2001
footprint F-QFP20X20-G144/N
pins: 1 VCCO (power), 2 TCK (in), 3 I/O (68) (io), 4 I/O (65) (io), 5 I/O, VREF (62) (io), 6 I/O (59) (io), 7 I/O (56) (io), 8 GND (power), 9 VCCINT (power), 10 I/O (53) (io), 11 I/O (50) (io), 12 I/O, VREF (47) (io), 13 I/O (44) (io), 14 VCCINT (power), 15 GCK3 (37) (in), 16 VCCO (power), 17 GND (power), 18 GCK2 (36) (in), 19 I/O (30) (io), 20 I/O (27) (io), 21 I/O, VREF (24) (io), 22 I/O (21) (io), 23 I/O (18) (io), 24 VCCINT (power), 25 GND (power), 26 I/O (15) (io), 27 I/O (12) (io), 28 I/O, VREF (9) (io), 29 I/O (6) (io), 30 I/O (~{WRITE}) (3) (io), 31 I/O (~{CS}) (0) (io), 32 TDI (in), 33 GND (power), 34 TDO (out), 35 VCCO (power), 36 VCCO (power), 37 CCLK (299) (io), 38 I/O (DOUT, BUSY) (296) (io), 39 I/O (DIN, D0) (293) (io), 40 I/O (290) (io), 41 I/O, VREF (287) (io), 42 NC, 43 I/O (284) (io), 44 I/O (D1) (281) (io), 45 GND (power), 46 I/O (D2) (278) (io), 47 I/O (275) (io), 48 I/O, VREF (272) (io), 49 I/O (D3) (269) (io), 50 I/O (266) (io), 51 I/O, IRDY (263) (io), 52 GND (power), 53 VCCO (power), 54 I/O, TRDY (260) (io), 55 VCCINT (power), 56 I/O (257) (io), 57 I/O (D4) (254) (io), 58 I/O, VREF (251) (io), 59 I/O (248) (io), 60 I/O (D5) (245) (io), 61 GND (power), 62 I/O (D6) (242) (io), 63 I/O (239) (io), 64 NC, 65 I/O, VREF (236) (io), 66 I/O (233) (io), 67 I/O (D7) (230) (io), 68 I/O (~{INIT}) (227) (io), 69 ~{PROGRAM} (226) (in), 70 VCCO (power), 71 VCCO (power), 72 DONE (223) (io), 73 GND (power), 74 I/O (220) (io), 75 I/O (217) (io), 76 I/O (214) (io), 77 I/O, VREF (211) (io), 78 NC, 79 I/O (208) (io), 80 I/O (205) (io), 81 GND (power), 82 VCCINT (power), 83 I/O (202) (io), 84 I/O (199) (io), 85 I/O, VREF (196) (io), 86 I/O (193) (io), 87 I/O (190) (io), 88 GCK0 (186) (in), 89 GND (power), 90 VCCO (power), 91 GCK1 (185) (in), 92 VCCINT (power), 93 I/O (176) (io), 94 I/O, VREF (173) (io), 95 I/O (170) (io), 96 I/O (167) (io), 97 VCCINT (power), 98 GND (power), 99 I/O (164) (io), 100 I/O (161) (io), 101 NC, 102 I/O, VREF (158) (io), 103 I/O (155) (io), 104 STATUS, 105 PWDN, 106 M2 (148) (in), 107 VCCO (power), 108 VCCO (power), 109 M0 (147) (in), 110 GND (power), 111 M1 (146) (in), 112 I/O (143) (io), 113 I/O (140) (io), 114 I/O (137) (io), 115 I/O, VREF (134) (io), 116 NC, 117 I/O (131) (io), 118 I/O (128) (io), 119 GND (power), 120 I/O (125) (io), 121 I/O (122) (io), 122 I/O, VREF (119) (io), 123 I/O (116) (io), 124 I/O (113) (io), 125 VCCINT (power), 126 I/O, TRDY (110) (io), 127 VCCO (power), 128 GND (power), 129 I/O, IRDY (107) (io), 130 I/O (104) (io), 131 I/O (101) (io), 132 I/O, VREF (98) (io), 133 I/O (95) (io), 134 I/O (92) (io), 135 GND (power), 136 I/O (89) (io), 137 I/O (86) (io), 138 NC, 139 I/O, VREF (83) (io), 140 I/O (80) (io), 141 I/O (77) (io), 142 TMS (in), 143 GND (power), 144 VCCO (power)
2 alternate drawings of the same symbol

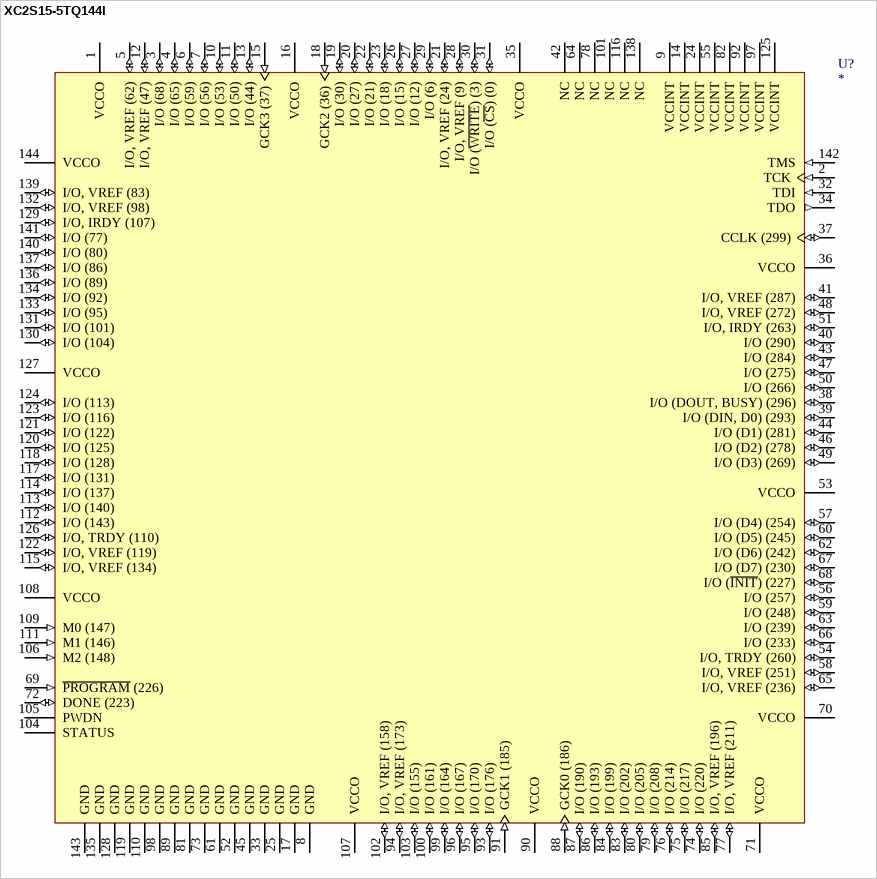
[diagram p13: symbol XC2S15-5TQ144I]

## XC2S15-5TQ144I
designator U?
Spartan-II 2.5V Field Programmable Gate Array; Text Field1: Published 13-Jul-2001
footprint F-QFP20X20-G144/N
pins: 1 VCCO (power), 2 TCK (in), 3 I/O (68) (io), 4 I/O (65) (io), 5 I/O, VREF (62) (io), 6 I/O (59) (io), 7 I/O (56) (io), 8 GND (power), 9 VCCINT (power), 10 I/O (53) (io), 11 I/O (50) (io), 12 I/O, VREF (47) (io), 13 I/O (44) (io), 14 VCCINT (power), 15 GCK3 (37) (in), 16 VCCO (power), 17 GND (power), 18 GCK2 (36) (in), 19 I/O (30) (io), 20 I/O (27) (io), 21 I/O, VREF (24) (io), 22 I/O (21) (io), 23 I/O (18) (io), 24 VCCINT (power), 25 GND (power), 26 I/O (15) (io), 27 I/O (12) (io), 28 I/O, VREF (9) (io), 29 I/O (6) (io), 30 I/O (~{WRITE}) (3) (io), 31 I/O (~{CS}) (0) (io), 32 TDI (in), 33 GND (power), 34 TDO (out), 35 VCCO (power), 36 VCCO (power), 37 CCLK (299) (io), 38 I/O (DOUT, BUSY) (296) (io), 39 I/O (DIN, D0) (293) (io), 40 I/O (290) (io), 41 I/O, VREF (287) (io), 42 NC, 43 I/O (284) (io), 44 I/O (D1) (281) (io), 45 GND (power), 46 I/O (D2) (278) (io), 47 I/O (275) (io), 48 I/O, VREF (272) (io), 49 I/O (D3) (269) (io), 50 I/O (266) (io), 51 I/O, IRDY (263) (io), 52 GND (power), 53 VCCO (power), 54 I/O, TRDY (260) (io), 55 VCCINT (power), 56 I/O (257) (io), 57 I/O (D4) (254) (io), 58 I/O, VREF (251) (io), 59 I/O (248) (io), 60 I/O (D5) (245) (io), 61 GND (power), 62 I/O (D6) (242) (io), 63 I/O (239) (io), 64 NC, 65 I/O, VREF (236) (io), 66 I/O (233) (io), 67 I/O (D7) (230) (io), 68 I/O (~{INIT}) (227) (io), 69 ~{PROGRAM} (226) (in), 70 VCCO (power), 71 VCCO (power), 72 DONE (223) (io), 73 GND (power), 74 I/O (220) (io), 75 I/O (217) (io), 76 I/O (214) (io), 77 I/O, VREF (211) (io), 78 NC, 79 I/O (208) (io), 80 I/O (205) (io), 81 GND (power), 82 VCCINT (power), 83 I/O (202) (io), 84 I/O (199) (io), 85 I/O, VREF (196) (io), 86 I/O (193) (io), 87 I/O (190) (io), 88 GCK0 (186) (in), 89 GND (power), 90 VCCO (power), 91 GCK1 (185) (in), 92 VCCINT (power), 93 I/O (176) (io), 94 I/O, VREF (173) (io), 95 I/O (170) (io), 96 I/O (167) (io), 97 VCCINT (power), 98 GND (power), 99 I/O (164) (io), 100 I/O (161) (io), 101 NC, 102 I/O, VREF (158) (io), 103 I/O (155) (io), 104 STATUS, 105 PWDN, 106 M2 (148) (in), 107 VCCO (power), 108 VCCO (power), 109 M0 (147) (in), 110 GND (power), 111 M1 (146) (in), 112 I/O (143) (io), 113 I/O (140) (io), 114 I/O (137) (io), 115 I/O, VREF (134) (io), 116 NC, 117 I/O (131) (io), 118 I/O (128) (io), 119 GND (power), 120 I/O (125) (io), 121 I/O (122) (io), 122 I/O, VREF (119) (io), 123 I/O (116) (io), 124 I/O (113) (io), 125 VCCINT (power), 126 I/O, TRDY (110) (io), 127 VCCO (power), 128 GND (power), 129 I/O, IRDY (107) (io), 130 I/O (104) (io), 131 I/O (101) (io), 132 I/O, VREF (98) (io), 133 I/O (95) (io), 134 I/O (92) (io), 135 GND (power), 136 I/O (89) (io), 137 I/O (86) (io), 138 NC, 139 I/O, VREF (83) (io), 140 I/O (80) (io), 141 I/O (77) (io), 142 TMS (in), 143 GND (power), 144 VCCO (power)
2 alternate drawings of the same symbol

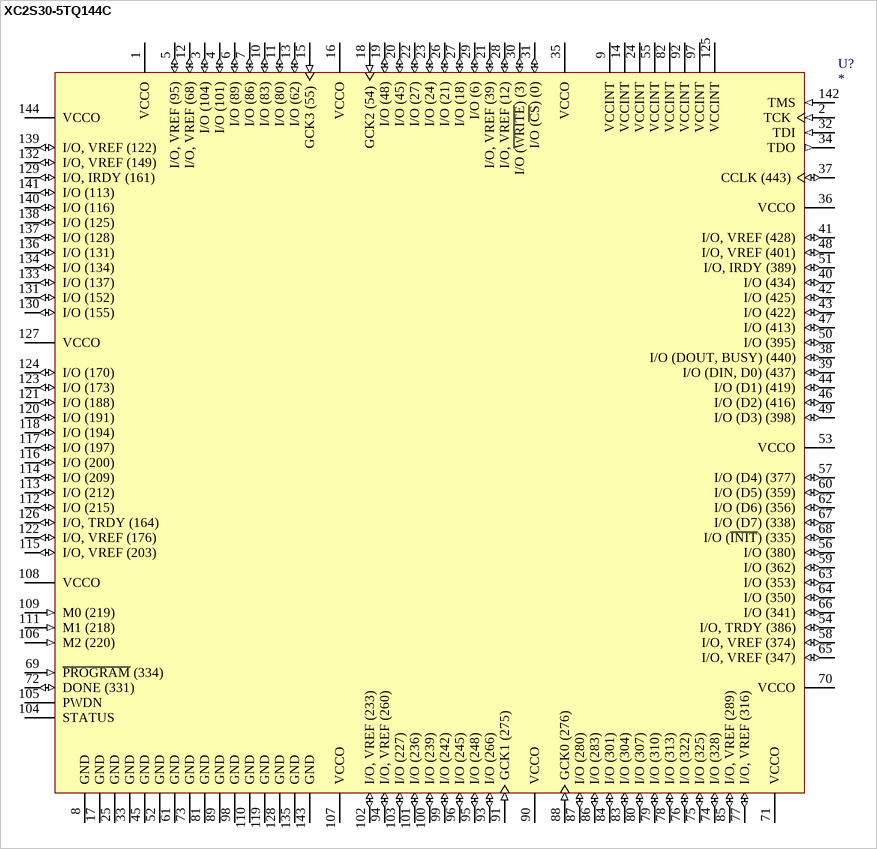
[diagram p14: symbol XC2S30-5TQ144C]

## XC2S30-5TQ144C
designator U?
Spartan-II 2.5V Field Programmable Gate Array; Text Field1: Published 13-Jul-2001
footprint F-QFP20X20-G144/N
pins: 1 VCCO (power), 2 TCK (in), 3 I/O (104) (io), 4 I/O (101) (io), 5 I/O, VREF (95) (io), 6 I/O (89) (io), 7 I/O (86) (io), 8 GND (power), 9 VCCINT (power), 10 I/O (83) (io), 11 I/O (80) (io), 12 I/O, VREF (68) (io), 13 I/O (62) (io), 14 VCCINT (power), 15 GCK3 (55) (in), 16 VCCO (power), 17 GND (power), 18 GCK2 (54) (in), 19 I/O (48) (io), 20 I/O (45) (io), 21 I/O, VREF (39) (io), 22 I/O (27) (io), 23 I/O (24) (io), 24 VCCINT (power), 25 GND (power), 26 I/O (21) (io), 27 I/O (18) (io), 28 I/O, VREF (12) (io), 29 I/O (6) (io), 30 I/O (~{WRITE}) (3) (io), 31 I/O (~{CS}) (0) (io), 32 TDI (in), 33 GND (power), 34 TDO (out), 35 VCCO (power), 36 VCCO (power), 37 CCLK (443) (io), 38 I/O (DOUT, BUSY) (440) (io), 39 I/O (DIN, D0) (437) (io), 40 I/O (434) (io), 41 I/O, VREF (428) (io), 42 I/O (425) (io), 43 I/O (422) (io), 44 I/O (D1) (419) (io), 45 GND (power), 46 I/O (D2) (416) (io), 47 I/O (413) (io), 48 I/O, VREF (401) (io), 49 I/O (D3) (398) (io), 50 I/O (395) (io), 51 I/O, IRDY (389) (io), 52 GND (power), 53 VCCO (power), 54 I/O, TRDY (386) (io), 55 VCCINT (power), 56 I/O (380) (io), 57 I/O (D4) (377) (io), 58 I/O, VREF (374) (io), 59 I/O (362) (io), 60 I/O (D5) (359) (io), 61 GND (power), 62 I/O (D6) (356) (io), 63 I/O (353) (io), 64 I/O (350) (io), 65 I/O, VREF (347) (io), 66 I/O (341) (io), 67 I/O (D7) (338) (io), 68 I/O (~{INIT}) (335) (io), 69 ~{PROGRAM} (334) (in), 70 VCCO (power), 71 VCCO (power), 72 DONE (331) (io), 73 GND (power), 74 I/O (328) (io), 75 I/O (325) (io), 76 I/O (322) (io), 77 I/O, VREF (316) (io), 78 I/O (313) (io), 79 I/O (310) (io), 80 I/O (307) (io), 81 GND (power), 82 VCCINT (power), 83 I/O (304) (io), 84 I/O (301) (io), 85 I/O, VREF (289) (io), 86 I/O (283) (io), 87 I/O (280) (io), 88 GCK0 (276) (in), 89 GND (power), 90 VCCO (power), 91 GCK1 (275) (in), 92 VCCINT (power), 93 I/O (266) (io), 94 I/O, VREF (260) (io), 95 I/O (248) (io), 96 I/O (245) (io), 97 VCCINT (power), 98 GND (power), 99 I/O (242) (io), 100 I/O (239) (io), 101 I/O (236) (io), 102 I/O, VREF (233) (io), 103 I/O (227) (io), 104 STATUS, 105 PWDN, 106 M2 (220) (in), 107 VCCO (power), 108 VCCO (power), 109 M0 (219) (in), 110 GND (power), 111 M1 (218) (in), 112 I/O (215) (io), 113 I/O (212) (io), 114 I/O (209) (io), 115 I/O, VREF (203) (io), 116 I/O (200) (io), 117 I/O (197) (io), 118 I/O (194) (io), 119 GND (power), 120 I/O (191) (io), 121 I/O (188) (io), 122 I/O, VREF (176) (io), 123 I/O (173) (io), 124 I/O (170) (io), 125 VCCINT (power), 126 I/O, TRDY (164) (io), 127 VCCO (power), 128 GND (power), 129 I/O, IRDY (161) (io), 130 I/O (155) (io), 131 I/O (152) (io), 132 I/O, VREF (149) (io), 133 I/O (137) (io), 134 I/O (134) (io), 135 GND (power), 136 I/O (131) (io), 137 I/O (128) (io), 138 I/O (125) (io), 139 I/O, VREF (122) (io), 140 I/O (116) (io), 141 I/O (113) (io), 142 TMS (in), 143 GND (power), 144 VCCO (power)
2 alternate drawings of the same symbol

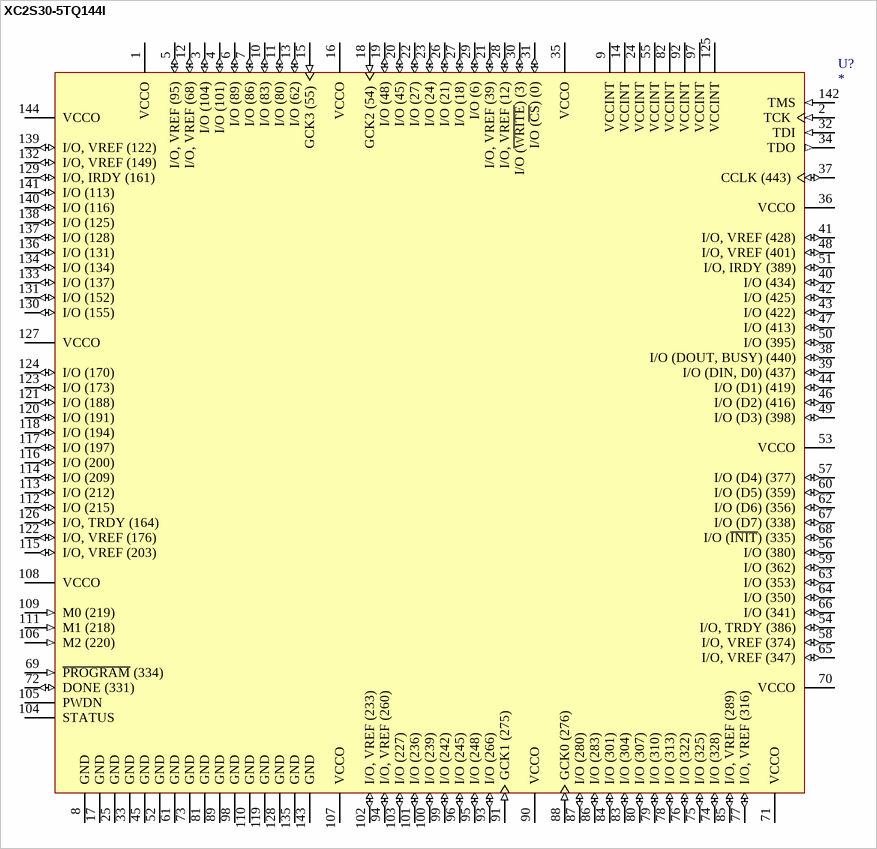
[diagram p15: symbol XC2S30-5TQ144I]

## XC2S30-5TQ144I
designator U?
Spartan-II 2.5V Field Programmable Gate Array; Text Field1: Published 13-Jul-2001
footprint F-QFP20X20-G144/N
pins: 1 VCCO (power), 2 TCK (in), 3 I/O (104) (io), 4 I/O (101) (io), 5 I/O, VREF (95) (io), 6 I/O (89) (io), 7 I/O (86) (io), 8 GND (power), 9 VCCINT (power), 10 I/O (83) (io), 11 I/O (80) (io), 12 I/O, VREF (68) (io), 13 I/O (62) (io), 14 VCCINT (power), 15 GCK3 (55) (in), 16 VCCO (power), 17 GND (power), 18 GCK2 (54) (in), 19 I/O (48) (io), 20 I/O (45) (io), 21 I/O, VREF (39) (io), 22 I/O (27) (io), 23 I/O (24) (io), 24 VCCINT (power), 25 GND (power), 26 I/O (21) (io), 27 I/O (18) (io), 28 I/O, VREF (12) (io), 29 I/O (6) (io), 30 I/O (~{WRITE}) (3) (io), 31 I/O (~{CS}) (0) (io), 32 TDI (in), 33 GND (power), 34 TDO (out), 35 VCCO (power), 36 VCCO (power), 37 CCLK (443) (io), 38 I/O (DOUT, BUSY) (440) (io), 39 I/O (DIN, D0) (437) (io), 40 I/O (434) (io), 41 I/O, VREF (428) (io), 42 I/O (425) (io), 43 I/O (422) (io), 44 I/O (D1) (419) (io), 45 GND (power), 46 I/O (D2) (416) (io), 47 I/O (413) (io), 48 I/O, VREF (401) (io), 49 I/O (D3) (398) (io), 50 I/O (395) (io), 51 I/O, IRDY (389) (io), 52 GND (power), 53 VCCO (power), 54 I/O, TRDY (386) (io), 55 VCCINT (power), 56 I/O (380) (io), 57 I/O (D4) (377) (io), 58 I/O, VREF (374) (io), 59 I/O (362) (io), 60 I/O (D5) (359) (io), 61 GND (power), 62 I/O (D6) (356) (io), 63 I/O (353) (io), 64 I/O (350) (io), 65 I/O, VREF (347) (io), 66 I/O (341) (io), 67 I/O (D7) (338) (io), 68 I/O (~{INIT}) (335) (io), 69 ~{PROGRAM} (334) (in), 70 VCCO (power), 71 VCCO (power), 72 DONE (331) (io), 73 GND (power), 74 I/O (328) (io), 75 I/O (325) (io), 76 I/O (322) (io), 77 I/O, VREF (316) (io), 78 I/O (313) (io), 79 I/O (310) (io), 80 I/O (307) (io), 81 GND (power), 82 VCCINT (power), 83 I/O (304) (io), 84 I/O (301) (io), 85 I/O, VREF (289) (io), 86 I/O (283) (io), 87 I/O (280) (io), 88 GCK0 (276) (in), 89 GND (power), 90 VCCO (power), 91 GCK1 (275) (in), 92 VCCINT (power), 93 I/O (266) (io), 94 I/O, VREF (260) (io), 95 I/O (248) (io), 96 I/O (245) (io), 97 VCCINT (power), 98 GND (power), 99 I/O (242) (io), 100 I/O (239) (io), 101 I/O (236) (io), 102 I/O, VREF (233) (io), 103 I/O (227) (io), 104 STATUS, 105 PWDN, 106 M2 (220) (in), 107 VCCO (power), 108 VCCO (power), 109 M0 (219) (in), 110 GND (power), 111 M1 (218) (in), 112 I/O (215) (io), 113 I/O (212) (io), 114 I/O (209) (io), 115 I/O, VREF (203) (io), 116 I/O (200) (io), 117 I/O (197) (io), 118 I/O (194) (io), 119 GND (power), 120 I/O (191) (io), 121 I/O (188) (io), 122 I/O, VREF (176) (io), 123 I/O (173) (io), 124 I/O (170) (io), 125 VCCINT (power), 126 I/O, TRDY (164) (io), 127 VCCO (power), 128 GND (power), 129 I/O, IRDY (161) (io), 130 I/O (155) (io), 131 I/O (152) (io), 132 I/O, VREF (149) (io), 133 I/O (137) (io), 134 I/O (134) (io), 135 GND (power), 136 I/O (131) (io), 137 I/O (128) (io), 138 I/O (125) (io), 139 I/O, VREF (122) (io), 140 I/O (116) (io), 141 I/O (113) (io), 142 TMS (in), 143 GND (power), 144 VCCO (power)
2 alternate drawings of the same symbol

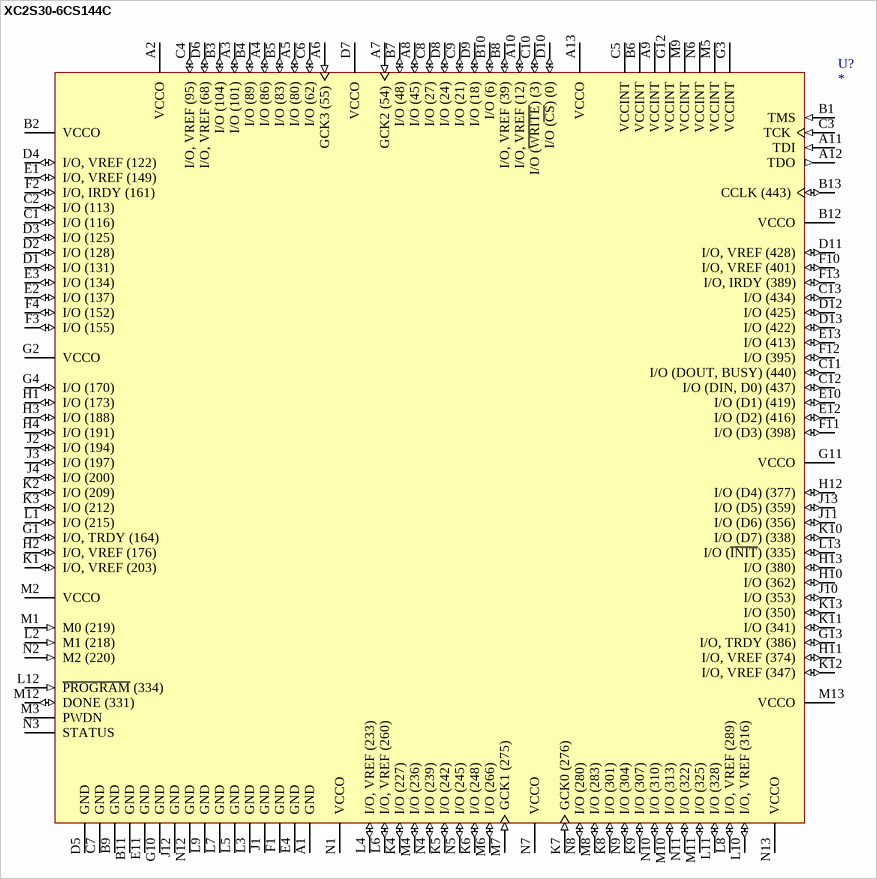
[diagram p16: symbol XC2S30-6CS144C]

## XC2S30-6CS144C
designator U?
Spartan-II 2.5V Field Programmable Gate Array; Text Field1: Published 13-Jul-2001
footprint BGA12X12-B144
pins: A1 GND (power), A2 VCCO (power), A3 I/O (101) (io), A4 I/O (86) (io), A5 I/O (80) (io), A6 GCK3 (55) (in), A7 GCK2 (54) (in), A8 I/O (45) (io), A9 VCCINT (power), A10 I/O, VREF (12) (io), A11 TDI (in), A12 TDO (out), A13 VCCO (power), B1 TMS (in), B2 VCCO (power), B3 I/O (104) (io), B4 I/O (89) (io), B5 I/O (83) (io), B6 VCCINT (power), B7 I/O (48) (io), B8 I/O, VREF (39) (io), B9 GND (power), B10 I/O (6) (io), B11 GND (power), B12 VCCO (power), B13 CCLK (443) (io), C1 I/O (116) (io), C2 I/O (113) (io), C3 TCK (in), C4 I/O, VREF (95) (io), C5 VCCINT (power), C6 I/O (62) (io), C7 GND (power), C8 I/O (27) (io), C9 I/O (21) (io), C10 I/O (~{WRITE}) (3) (io), C11 I/O (DOUT, BUSY) (440) (io), C12 I/O (DIN, D0) (437) (io), C13 I/O (434) (io), D1 I/O (131) (io), D2 I/O (128) (io), D3 I/O (125) (io), D4 I/O, VREF (122) (io), D5 GND (power), D6 I/O, VREF (68) (io), D7 VCCO (power), D8 I/O (24) (io), D9 I/O (18) (io), D10 I/O (~{CS}) (0) (io), D11 I/O, VREF (428) (io), D12 I/O (425) (io), D13 I/O (422) (io), E1 I/O, VREF (149) (io), E2 I/O (137) (io), E3 I/O (134) (io), E4 GND (power), E10 I/O (D1) (419) (io), E11 GND (power), E12 I/O (D2) (416) (io), E13 I/O (413) (io), F1 GND (power), F2 I/O, IRDY (161) (io), F3 I/O (155) (io), F4 I/O (152) (io), F10 I/O, VREF (401) (io), F11 I/O (D3) (398) (io), F12 I/O (395) (io), F13 I/O, IRDY (389) (io), G1 I/O, TRDY (164) (io), G2 VCCO (power), G3 VCCINT (power), G4 I/O (170) (io), G10 GND (power), G11 VCCO (power), G12 VCCINT (power), G13 I/O, TRDY (386) (io), H1 I/O (173) (io), H2 I/O, VREF (176) (io), H3 I/O (188) (io), H4 I/O (191) (io), H10 I/O (362) (io), H11 I/O, VREF (374) (io), H12 I/O (D4) (377) (io), H13 I/O (380) (io), J1 GND (power), J2 I/O (194) (io), J3 I/O (197) (io), J4 I/O (200) (io), J10 I/O (353) (io), J11 I/O (D6) (356) (io), J12 GND (power), J13 I/O (D5) (359) (io), K1 I/O, VREF (203) (io), K2 I/O (209) (io), K3 I/O (212) (io), K4 I/O (227) (io), K5 I/O (242) (io), K6 I/O (248) (io), K7 GCK0 (276) (in), K8 I/O (301) (io), K9 I/O (307) (io), K10 I/O (D7) (338) (io), K11 I/O (341) (io), K12 I/O, VREF (347) (io), K13 I/O (350) (io), L1 I/O (215) (io), L2 M1 (218) (in), L3 GND (power), L4 I/O, VREF (233) (io), L5 GND (power), L6 I/O, VREF (260) (io), L7 GND (power), L8 I/O, VREF (289) (io), L9 GND (power), L10 I/O, VREF (316) (io), L11 I/O (328) (io), L12 ~{PROGRAM} (334) (in), L13 I/O (~{INIT}) (335) (io), M1 M0 (219) (in), M2 VCCO (power), M3 PWDN, M4 I/O (236) (io), M5 VCCINT (power), M6 I/O (266) (io), M7 GCK1 (275) (in), M8 I/O (283) (io), M9 VCCINT (power), M10 I/O (313) (io), M11 I/O (325) (io), M12 DONE (331) (io), M13 VCCO (power), N1 VCCO (power), N2 M2 (220) (in), N3 STATUS, N4 I/O (239) (io), N5 I/O (245) (io), N6 VCCINT (power), N7 VCCO (power), N8 I/O (280) (io), N9 I/O (304) (io), N10 I/O (310) (io), N11 I/O (322) (io), N12 GND (power), N13 VCCO (power)
2 alternate drawings of the same symbol

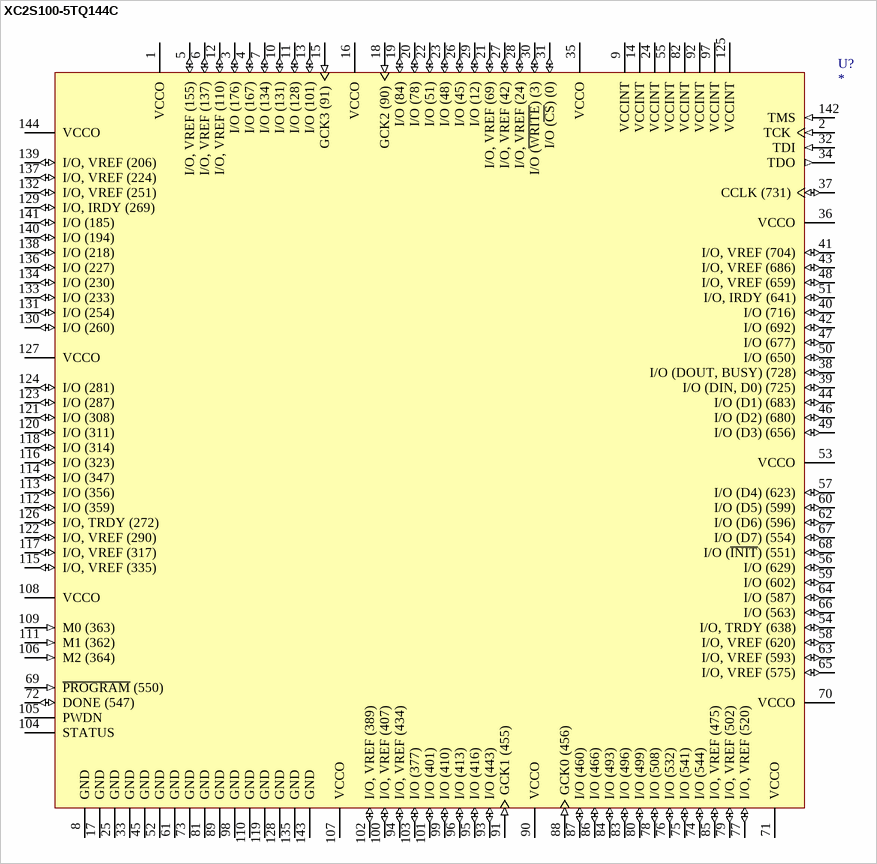
[diagram p17: symbol XC2S100-5TQ144C]

## XC2S100-5TQ144C
designator U?
Spartan-II 2.5V Field Programmable Gate Array; Text Field1: Published 13-Jul-2001
footprint F-QFP20X20-G144/N
pins: 1 VCCO (power), 2 TCK (in), 3 I/O (176) (io), 4 I/O (167) (io), 5 I/O, VREF (155) (io), 6 I/O, VREF (137) (io), 7 I/O (134) (io), 8 GND (power), 9 VCCINT (power), 10 I/O (131) (io), 11 I/O (128) (io), 12 I/O, VREF (110) (io), 13 I/O (101) (io), 14 VCCINT (power), 15 GCK3 (91) (in), 16 VCCO (power), 17 GND (power), 18 GCK2 (90) (in), 19 I/O (84) (io), 20 I/O (78) (io), 21 I/O, VREF (69) (io), 22 I/O (51) (io), 23 I/O (48) (io), 24 VCCINT (power), 25 GND (power), 26 I/O (45) (io), 27 I/O, VREF (42) (io), 28 I/O, VREF (24) (io), 29 I/O (12) (io), 30 I/O (~{WRITE}) (3) (io), 31 I/O (~{CS}) (0) (io), 32 TDI (in), 33 GND (power), 34 TDO (out), 35 VCCO (power), 36 VCCO (power), 37 CCLK (731) (io), 38 I/O (DOUT, BUSY) (728) (io), 39 I/O (DIN, D0) (725) (io), 40 I/O (716) (io), 41 I/O, VREF (704) (io), 42 I/O (692) (io), 43 I/O, VREF (686) (io), 44 I/O (D1) (683) (io), 45 GND (power), 46 I/O (D2) (680) (io), 47 I/O (677) (io), 48 I/O, VREF (659) (io), 49 I/O (D3) (656) (io), 50 I/O (650) (io), 51 I/O, IRDY (641) (io), 52 GND (power), 53 VCCO (power), 54 I/O, TRDY (638) (io), 55 VCCINT (power), 56 I/O (629) (io), 57 I/O (D4) (623) (io), 58 I/O, VREF (620) (io), 59 I/O (602) (io), 60 I/O (D5) (599) (io), 61 GND (power), 62 I/O (D6) (596) (io), 63 I/O, VREF (593) (io), 64 I/O (587) (io), 65 I/O, VREF (575) (io), 66 I/O (563) (io), 67 I/O (D7) (554) (io), 68 I/O (~{INIT}) (551) (io), 69 ~{PROGRAM} (550) (in), 70 VCCO (power), 71 VCCO (power), 72 DONE (547) (io), 73 GND (power), 74 I/O (544) (io), 75 I/O (541) (io), 76 I/O (532) (io), 77 I/O, VREF (520) (io), 78 I/O (508) (io), 79 I/O, VREF (502) (io), 80 I/O (499) (io), 81 GND (power), 82 VCCINT (power), 83 I/O (496) (io), 84 I/O (493) (io), 85 I/O, VREF (475) (io), 86 I/O (466) (io), 87 I/O (460) (io), 88 GCK0 (456) (in), 89 GND (power), 90 VCCO (power), 91 GCK1 (455) (in), 92 VCCINT (power), 93 I/O (443) (io), 94 I/O, VREF (434) (io), 95 I/O (416) (io), 96 I/O (413) (io), 97 VCCINT (power), 98 GND (power), 99 I/O (410) (io), 100 I/O, VREF (407) (io), 101 I/O (401) (io), 102 I/O, VREF (389) (io), 103 I/O (377) (io), 104 STATUS, 105 PWDN, 106 M2 (364) (in), 107 VCCO (power), 108 VCCO (power), 109 M0 (363) (in), 110 GND (power), 111 M1 (362) (in), 112 I/O (359) (io), 113 I/O (356) (io), 114 I/O (347) (io), 115 I/O, VREF (335) (io), 116 I/O (323) (io), 117 I/O, VREF (317) (io), 118 I/O (314) (io), 119 GND (power), 120 I/O (311) (io), 121 I/O (308) (io), 122 I/O, VREF (290) (io), 123 I/O (287) (io), 124 I/O (281) (io), 125 VCCINT (power), 126 I/O, TRDY (272) (io), 127 VCCO (power), 128 GND (power), 129 I/O, IRDY (269) (io), 130 I/O (260) (io), 131 I/O (254) (io), 132 I/O, VREF (251) (io), 133 I/O (233) (io), 134 I/O (230) (io), 135 GND (power), 136 I/O (227) (io), 137 I/O, VREF (224) (io), 138 I/O (218) (io), 139 I/O, VREF (206) (io), 140 I/O (194) (io), 141 I/O (185) (io), 142 TMS (in), 143 GND (power), 144 VCCO (power)
2 alternate drawings of the same symbol

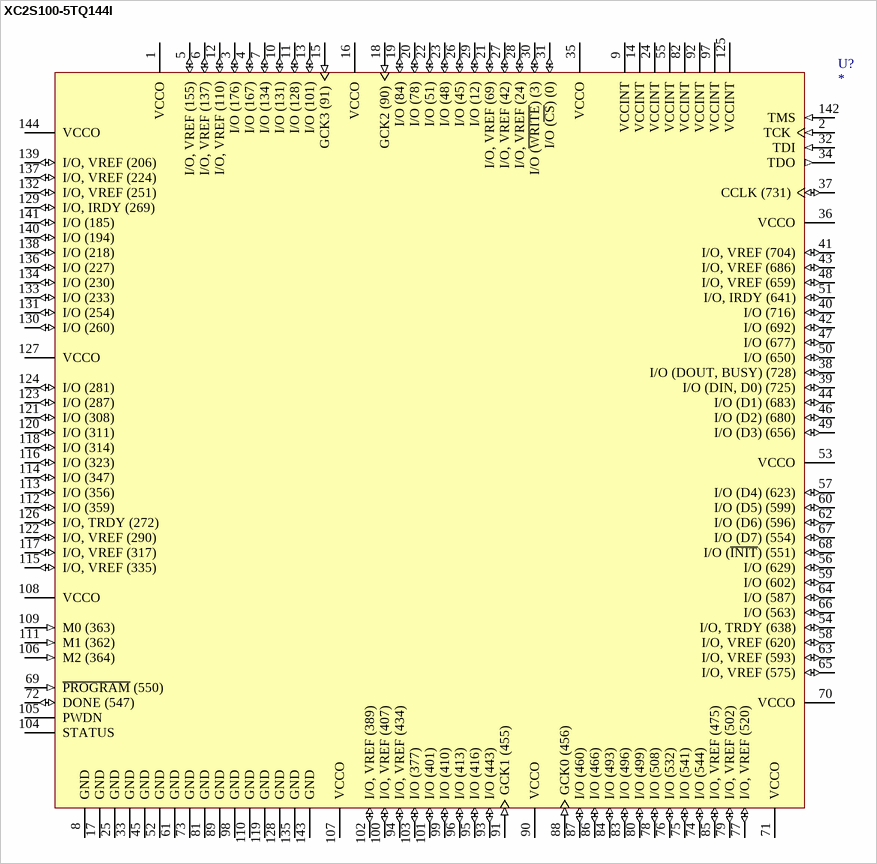
[diagram p18: symbol XC2S100-5TQ144I]

## XC2S100-5TQ144I
designator U?
Spartan-II 2.5V Field Programmable Gate Array; Text Field1: Published 13-Jul-2001
footprint F-QFP20X20-G144/N
pins: 1 VCCO (power), 2 TCK (in), 3 I/O (176) (io), 4 I/O (167) (io), 5 I/O, VREF (155) (io), 6 I/O, VREF (137) (io), 7 I/O (134) (io), 8 GND (power), 9 VCCINT (power), 10 I/O (131) (io), 11 I/O (128) (io), 12 I/O, VREF (110) (io), 13 I/O (101) (io), 14 VCCINT (power), 15 GCK3 (91) (in), 16 VCCO (power), 17 GND (power), 18 GCK2 (90) (in), 19 I/O (84) (io), 20 I/O (78) (io), 21 I/O, VREF (69) (io), 22 I/O (51) (io), 23 I/O (48) (io), 24 VCCINT (power), 25 GND (power), 26 I/O (45) (io), 27 I/O, VREF (42) (io), 28 I/O, VREF (24) (io), 29 I/O (12) (io), 30 I/O (~{WRITE}) (3) (io), 31 I/O (~{CS}) (0) (io), 32 TDI (in), 33 GND (power), 34 TDO (out), 35 VCCO (power), 36 VCCO (power), 37 CCLK (731) (io), 38 I/O (DOUT, BUSY) (728) (io), 39 I/O (DIN, D0) (725) (io), 40 I/O (716) (io), 41 I/O, VREF (704) (io), 42 I/O (692) (io), 43 I/O, VREF (686) (io), 44 I/O (D1) (683) (io), 45 GND (power), 46 I/O (D2) (680) (io), 47 I/O (677) (io), 48 I/O, VREF (659) (io), 49 I/O (D3) (656) (io), 50 I/O (650) (io), 51 I/O, IRDY (641) (io), 52 GND (power), 53 VCCO (power), 54 I/O, TRDY (638) (io), 55 VCCINT (power), 56 I/O (629) (io), 57 I/O (D4) (623) (io), 58 I/O, VREF (620) (io), 59 I/O (602) (io), 60 I/O (D5) (599) (io), 61 GND (power), 62 I/O (D6) (596) (io), 63 I/O, VREF (593) (io), 64 I/O (587) (io), 65 I/O, VREF (575) (io), 66 I/O (563) (io), 67 I/O (D7) (554) (io), 68 I/O (~{INIT}) (551) (io), 69 ~{PROGRAM} (550) (in), 70 VCCO (power), 71 VCCO (power), 72 DONE (547) (io), 73 GND (power), 74 I/O (544) (io), 75 I/O (541) (io), 76 I/O (532) (io), 77 I/O, VREF (520) (io), 78 I/O (508) (io), 79 I/O, VREF (502) (io), 80 I/O (499) (io), 81 GND (power), 82 VCCINT (power), 83 I/O (496) (io), 84 I/O (493) (io), 85 I/O, VREF (475) (io), 86 I/O (466) (io), 87 I/O (460) (io), 88 GCK0 (456) (in), 89 GND (power), 90 VCCO (power), 91 GCK1 (455) (in), 92 VCCINT (power), 93 I/O (443) (io), 94 I/O, VREF (434) (io), 95 I/O (416) (io), 96 I/O (413) (io), 97 VCCINT (power), 98 GND (power), 99 I/O (410) (io), 100 I/O, VREF (407) (io), 101 I/O (401) (io), 102 I/O, VREF (389) (io), 103 I/O (377) (io), 104 STATUS, 105 PWDN, 106 M2 (364) (in), 107 VCCO (power), 108 VCCO (power), 109 M0 (363) (in), 110 GND (power), 111 M1 (362) (in), 112 I/O (359) (io), 113 I/O (356) (io), 114 I/O (347) (io), 115 I/O, VREF (335) (io), 116 I/O (323) (io), 117 I/O, VREF (317) (io), 118 I/O (314) (io), 119 GND (power), 120 I/O (311) (io), 121 I/O (308) (io), 122 I/O, VREF (290) (io), 123 I/O (287) (io), 124 I/O (281) (io), 125 VCCINT (power), 126 I/O, TRDY (272) (io), 127 VCCO (power), 128 GND (power), 129 I/O, IRDY (269) (io), 130 I/O (260) (io), 131 I/O (254) (io), 132 I/O, VREF (251) (io), 133 I/O (233) (io), 134 I/O (230) (io), 135 GND (power), 136 I/O (227) (io), 137 I/O, VREF (224) (io), 138 I/O (218) (io), 139 I/O, VREF (206) (io), 140 I/O (194) (io), 141 I/O (185) (io), 142 TMS (in), 143 GND (power), 144 VCCO (power)
2 alternate drawings of the same symbol

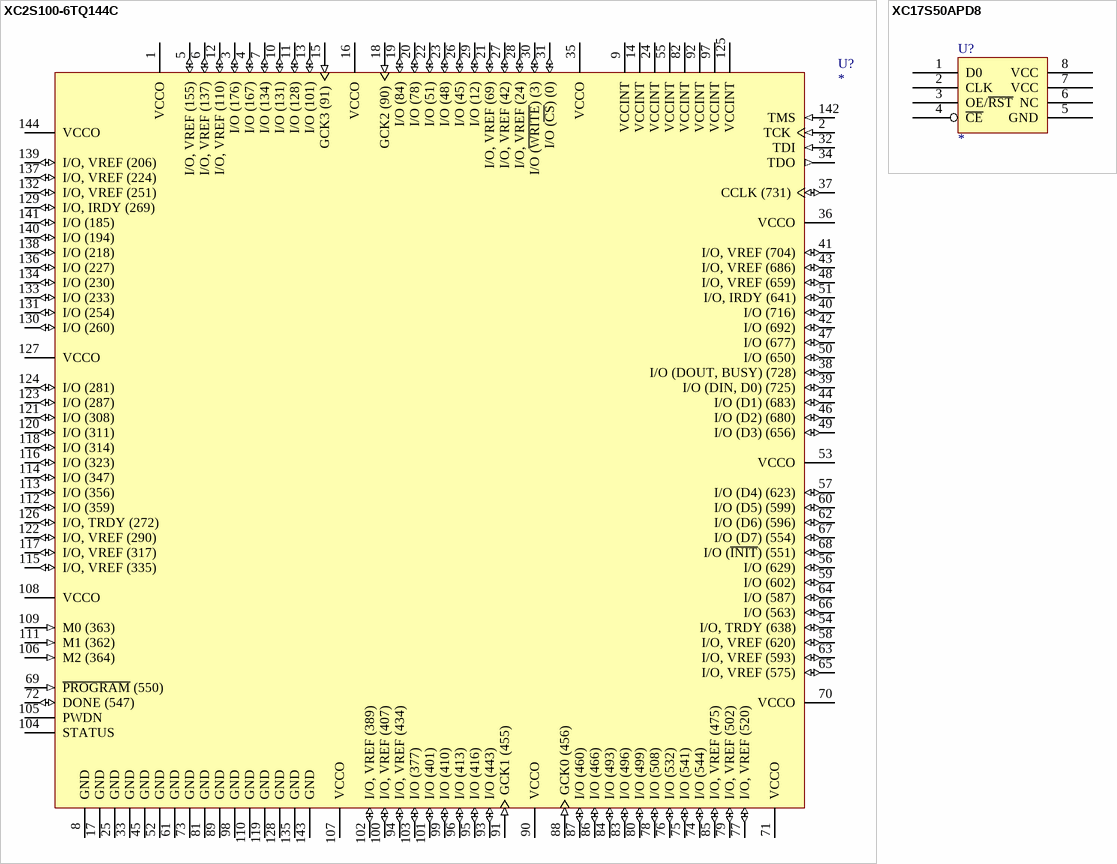
[diagram p19: symbols XC2S100-6TQ144C to XC17S50APD8]

## XC2S100-6TQ144C
designator U?
Spartan-II 2.5V Field Programmable Gate Array; Text Field1: Published 13-Jul-2001
footprint F-QFP20X20-G144/N
pins: 1 VCCO (power), 2 TCK (in), 3 I/O (176) (io), 4 I/O (167) (io), 5 I/O, VREF (155) (io), 6 I/O, VREF (137) (io), 7 I/O (134) (io), 8 GND (power), 9 VCCINT (power), 10 I/O (131) (io), 11 I/O (128) (io), 12 I/O, VREF (110) (io), 13 I/O (101) (io), 14 VCCINT (power), 15 GCK3 (91) (in), 16 VCCO (power), 17 GND (power), 18 GCK2 (90) (in), 19 I/O (84) (io), 20 I/O (78) (io), 21 I/O, VREF (69) (io), 22 I/O (51) (io), 23 I/O (48) (io), 24 VCCINT (power), 25 GND (power), 26 I/O (45) (io), 27 I/O, VREF (42) (io), 28 I/O, VREF (24) (io), 29 I/O (12) (io), 30 I/O (~{WRITE}) (3) (io), 31 I/O (~{CS}) (0) (io), 32 TDI (in), 33 GND (power), 34 TDO (out), 35 VCCO (power), 36 VCCO (power), 37 CCLK (731) (io), 38 I/O (DOUT, BUSY) (728) (io), 39 I/O (DIN, D0) (725) (io), 40 I/O (716) (io), 41 I/O, VREF (704) (io), 42 I/O (692) (io), 43 I/O, VREF (686) (io), 44 I/O (D1) (683) (io), 45 GND (power), 46 I/O (D2) (680) (io), 47 I/O (677) (io), 48 I/O, VREF (659) (io), 49 I/O (D3) (656) (io), 50 I/O (650) (io), 51 I/O, IRDY (641) (io), 52 GND (power), 53 VCCO (power), 54 I/O, TRDY (638) (io), 55 VCCINT (power), 56 I/O (629) (io), 57 I/O (D4) (623) (io), 58 I/O, VREF (620) (io), 59 I/O (602) (io), 60 I/O (D5) (599) (io), 61 GND (power), 62 I/O (D6) (596) (io), 63 I/O, VREF (593) (io), 64 I/O (587) (io), 65 I/O, VREF (575) (io), 66 I/O (563) (io), 67 I/O (D7) (554) (io), 68 I/O (~{INIT}) (551) (io), 69 ~{PROGRAM} (550) (in), 70 VCCO (power), 71 VCCO (power), 72 DONE (547) (io), 73 GND (power), 74 I/O (544) (io), 75 I/O (541) (io), 76 I/O (532) (io), 77 I/O, VREF (520) (io), 78 I/O (508) (io), 79 I/O, VREF (502) (io), 80 I/O (499) (io), 81 GND (power), 82 VCCINT (power), 83 I/O (496) (io), 84 I/O (493) (io), 85 I/O, VREF (475) (io), 86 I/O (466) (io), 87 I/O (460) (io), 88 GCK0 (456) (in), 89 GND (power), 90 VCCO (power), 91 GCK1 (455) (in), 92 VCCINT (power), 93 I/O (443) (io), 94 I/O, VREF (434) (io), 95 I/O (416) (io), 96 I/O (413) (io), 97 VCCINT (power), 98 GND (power), 99 I/O (410) (io), 100 I/O, VREF (407) (io), 101 I/O (401) (io), 102 I/O, VREF (389) (io), 103 I/O (377) (io), 104 STATUS, 105 PWDN, 106 M2 (364) (in), 107 VCCO (power), 108 VCCO (power), 109 M0 (363) (in), 110 GND (power), 111 M1 (362) (in), 112 I/O (359) (io), 113 I/O (356) (io), 114 I/O (347) (io), 115 I/O, VREF (335) (io), 116 I/O (323) (io), 117 I/O, VREF (317) (io), 118 I/O (314) (io), 119 GND (power), 120 I/O (311) (io), 121 I/O (308) (io), 122 I/O, VREF (290) (io), 123 I/O (287) (io), 124 I/O (281) (io), 125 VCCINT (power), 126 I/O, TRDY (272) (io), 127 VCCO (power), 128 GND (power), 129 I/O, IRDY (269) (io), 130 I/O (260) (io), 131 I/O (254) (io), 132 I/O, VREF (251) (io), 133 I/O (233) (io), 134 I/O (230) (io), 135 GND (power), 136 I/O (227) (io), 137 I/O, VREF (224) (io), 138 I/O (218) (io), 139 I/O, VREF (206) (io), 140 I/O (194) (io), 141 I/O (185) (io), 142 TMS (in), 143 GND (power), 144 VCCO (power)
2 alternate drawings of the same symbol

## XC17S50APD8
designator U?
footprint DIP8
pins: 1 D0, 2 CLK, 3 OE/~{RST}, 4 ~{CE}, 5 GND (power), 6 NC (hiz), 7 VCC (power), 8 VCC (power)
2 alternate drawings of the same symbol

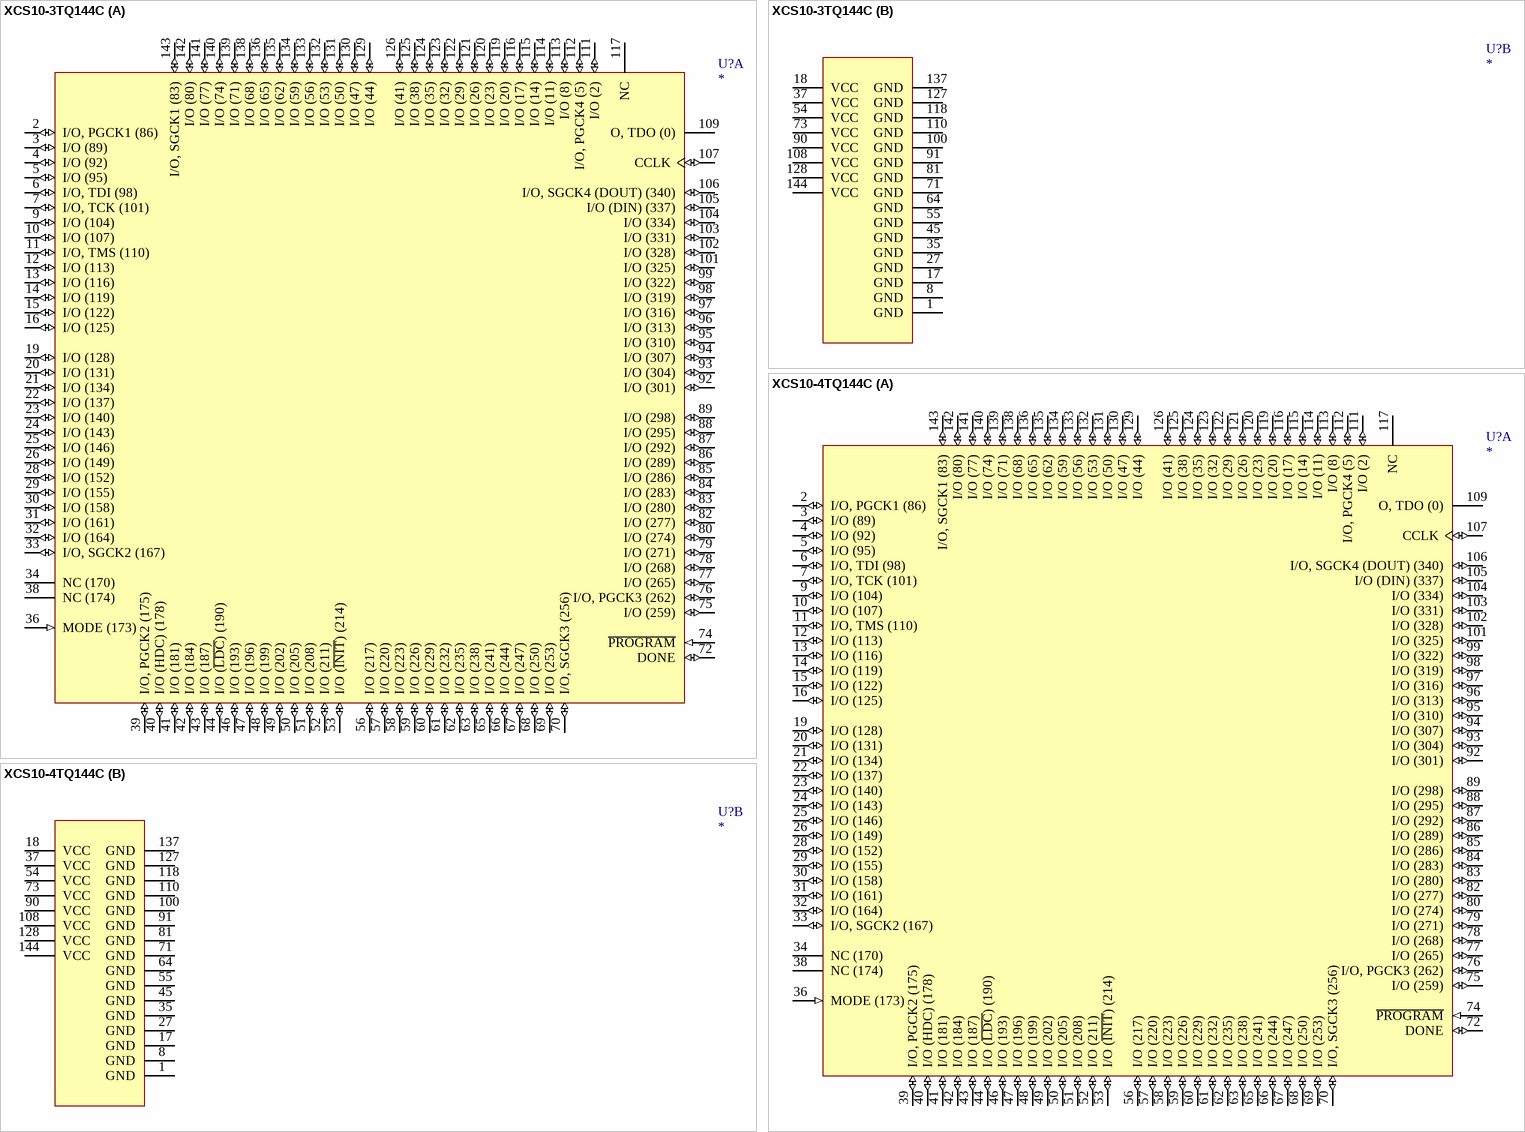
[diagram p20: symbols XCS10-3TQ144C to XCS10-4TQ144C]